# Altium integrated library Lattice Semiconductor ECP3.IntLib: 126 symbols (part 9 of 29)
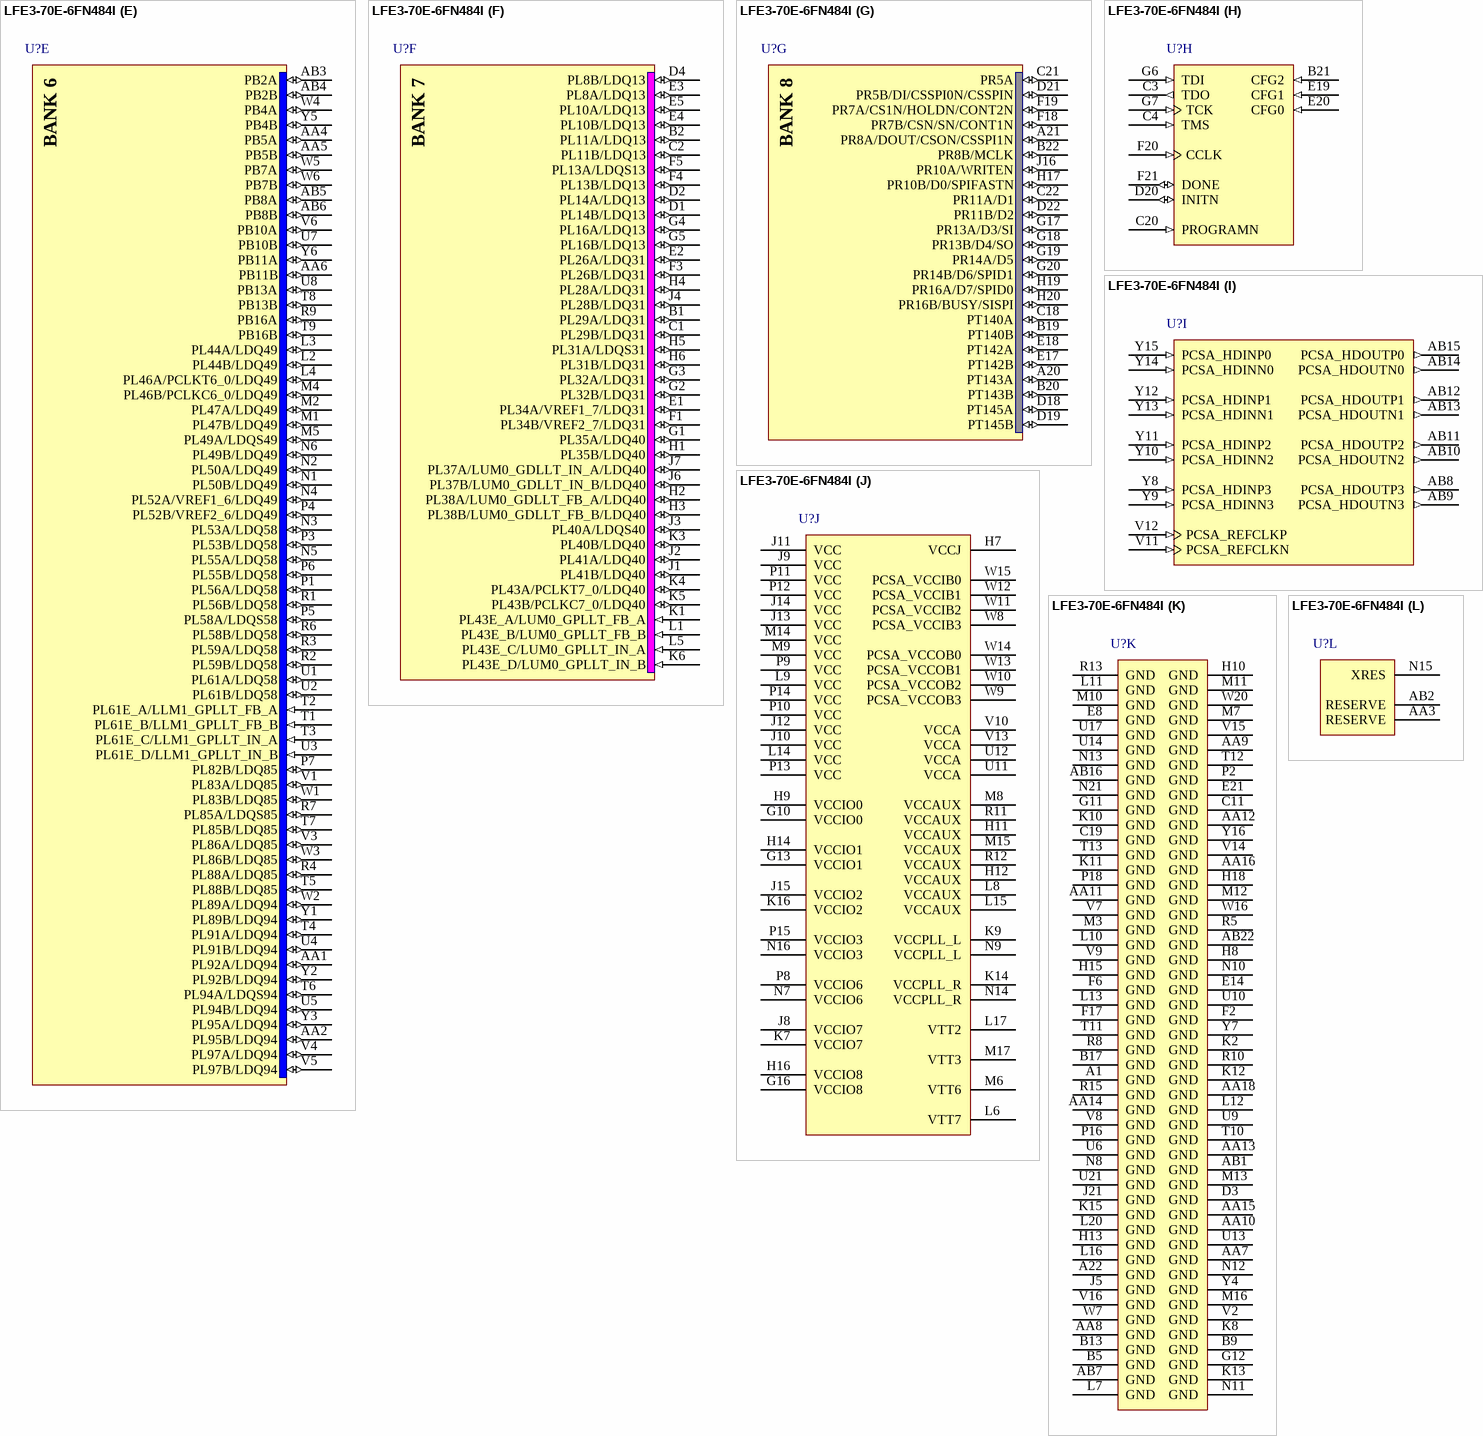
[diagram p263: symbol LFE3-70E-6FN484I]

## LFE3-70E-6FN484I
designator U?
ECP3 1.2V FPGA, 295 I/Os, 67K LUTs, 484-Pin BGA, Speed Grade 6, Industrial Grade, Pb-Free; DatasheetVersion: Ver 01.6, Mar-2010; PackageVersion: ver02.8, Jul-2011; PackageReference: fpBGA484; PackageDescription: 484-Ball Fine Pitch Ball Grid Array (fpBGA484); Code_IPC: BGA100P22X22-484; ComponentLink1Description: Manufacturer URL; ComponentLink1URL: http://www.latticesemi.com/
footprint fpBGA484 (BGA, 484-Leads, Body 23x23mm, Pitch 1mm)
part A pins: A2 PT8B/TDQ7 (io), A3 PT11A/TDQ16 (io), A4 PT11B/TDQ16 (io), A5 PT14A/TDQ16 (io), A6 PT14B/TDQ16 (io), A7 PT62B/TDQ61 (io), A8 PT65B/TDQ70 (io), A9 PT68A/TDQ70 (io), A10 PT71A/TDQ70 (io), A11 PT71B/TDQ70 (io), B3 PT8A/TDQ7 (io), B4 PT2B/TDQ7 (io), B6 PT5B/TDQ7 (io), B7 PT62A/TDQ61 (io), B8 PT65A/TDQ70 (io), B10 PT68B/TDQ70 (io), C5 PT2A/TDQ7 (io), C6 PT5A/TDQ7 (io), C7 PT56B/TDQ61 (io), C8 PT56A/TDQ61 (io), C9 PT59A/TDQ61 (io), C10 PT59B/TDQ61 (io), D5 PT4B/VREF2_0/TDQ7 (io), D6 PT10A/TDQ7 (io), D7 PT10B/TDQ7 (io), D8 PT64A/TDQ61 (io), D9 PT61A/TDQS61 (io), D10 PT61B/TDQ61 (io), D11 PT70B/TDQ70 (io), E6 PT4A/VREF1_0/TDQ7 (io), E7 PT64B/TDQ61 (io), E9 PT58B/TDQ61 (io), E10 PT67B/TDQ70 (io), E11 PT70A/TDQS70 (io), F7 PT13A/TDQ16 (io), F8 PT7A/TDQS7 (io), F9 PT58A/TDQ61 (io), F10 PT67A/TDQ70 (io), F11 PT73A/PCLKT0_0/TDQ70 (io), F12 PT73B/PCLKC0_0/TDQ70 (io), G8 PT13B/TDQ16 (io), G9 PT7B/TDQ7 (io)
part B pins: A12 PT77A/TDQ79 (io), A13 PT77B/TDQ79 (io), A14 PT83A/TDQ88 (io), A15 PT86A/TDQ88 (io), A16 PT128A/TDQ133 (io), A17 PT131A/TDQ133 (io), A18 PT134A/TDQ133 (io), A19 PT134B/TDQ133 (io), B11 PT74A/TDQ79 (io), B12 PT74B/TDQ79 (io), B14 PT83B/TDQ88 (io), B15 PT86B/TDQ88 (io), B16 PT128B/TDQ133 (io), B18 PT131B/TDQ133 (io), C12 PT76A/PCLKT1_0/TDQ79 (io), C13 PT80A/TDQ79 (io), C14 PT80B/TDQ79 (io), C15 PT89A/TDQ88 (io), C16 PT133B/TDQ133 (io), C17 PT133A/TDQS133 (io), D12 PT76B/PCLKC1_0/TDQ79 (io), D13 PT82A/TDQ79 (io), D14 PT82B/TDQ79 (io), D15 PT89B/TDQ88 (io), D16 PT136A/VREF1_1/TDQ133 (io), D17 PT136B/VREF2_1/TDQ133 (io), E12 PT79A/TDQS79 (io), E13 PT79B/TDQ79 (io), E15 PT88B/TDQ88 (io), E16 PT88A/TDQS88 (io), F13 PT85A/TDQ88 (io), F14 PT85B/TDQ88 (io), F15 PT130A/TDQ133 (io), F16 PT130B/TDQ133 (io), G14 PT91B/TDQ88 (io), G15 PT91A/TDQ88 (io)
part C pins: E22 PR26A/RDQ31 (io), F22 PR26B/RDQ31 (io), G21 PR29A/RDQ31 (io), G22 PR29B/RDQ31 (io), H21 PR32A/RDQ31 (io), H22 PR32B/RDQ31 (io), J17 PR28A/RDQ31 (io), J18 PR28B/RDQ31 (io), J19 PR31A/RDQS31 (io), J20 PR31B/RDQ31 (io), J22 PR35A/RDQ40 (io), K17 PR34A/VREF1_2/RDQ31 (io), K18 PR34B/VREF2_2/RDQ31 (io), K19 PR37B/RUM0_GDLLT_IN_B/RDQ40 (io), K20 PR37A/RUM0_GDLLT_IN_A/RDQ40 (io), K21 PR38A/RUM0_GDLLT_FB_A/RDQ40 (io), K22 PR35B/RDQ40 (io), L18 PR40A/RDQS40 (io), L19 PR40B/RDQ40 (io), L21 PR38B/RUM0_GDLLT_FB_B/RDQ40 (io), L22 PR41A/RDQ40 (io), M18 PR43E_C/RUM0_GPLLT_IN_A/RDQ40 (in), M20 PR43B/PCLKC2_0/RDQ40 (io), M21 PR43A/PCLKT2_0/RDQ40 (io), M22 PR41B/RDQ40 (io), N17 PR43E_D/RUM0_GPLLT_IN_B/RDQ40 (in), N22 PR43E_B/RUM0_GPLLT_FB_B/RDQ40 (in), P21 PR43E_A/RUM0_GPLLT_FB_A/RDQ40 (in)
part D pins: AA17 PB134B (io), AA19 PB143A (io), AA20 PR97A/RDQ94 (io), AA21 PR94A/RDQS94 (io), AA22 PR89A/RDQ94 (io), AB17 PB134A (io), AB18 PB137A (io), AB19 PB137B (io), AB20 PR97B/RDQ94 (io), AB21 PR89B/RDQ94 (io), M19 PR46B/PCLKC3_0/RDQ49 (io), N18 PR49A/RDQS49 (io), N19 PR46A/PCLKT3_0/RDQ49 (io), N20 PR52B/VREF2_3/RDQ49 (io), P17 PR55B/RDQ58 (io), P19 PR49B/RDQ49 (io), P20 PR52A/VREF1_3/RDQ49 (io), P22 PR44A/RDQ49 (io), R14 PB136B (io), R16 PR55A/RDQ58 (io), R17 PR61E_C/RLM1_GPLLT_IN_A/RDQ58 (in), R18 PR61B/RDQ58 (io), R19 PR61A/RDQ58 (io), R20 PR50B/RDQ49 (io), R21 PR44B/RDQ49 (io), R22 PR47A/RDQ49 (io), T14 PB136A (io), T15 PB145A (io), T16 PB145B (io), T17 PR61E_D/RLM1_GPLLT_IN_B/RDQ58 (in), T18 PR91B/RDQ94 (io), T19 PR91A/RDQ94 (io), T20 PR50A/RDQ49 (io), T21 PR58A/RDQS58 (io), T22 PR47B/RDQ49 (io), U15 PB133B (io), U16 PB133A (io), U18 PR92B/RDQ94 (io), U19 PR92A/RDQ94 (io), U20 PR58B/RDQ58 (io), U22 PR53A/RDQ58 (io), V17 PB142B (io), V18 PB142A (io), V19 PR95B/RDQ94 (io), V20 PR61E_B/RLM1_GPLLT_FB_B/RDQ58 (in), V21 PR61E_A/RLM1_GPLLT_FB_A/RDQ58 (in), V22 PR53B/RDQ58 (io), W17 PB139B (io), W18 PB139A (io), W19 PR95A/RDQ94 (io), W21 PR59B/RDQ58 (io), W22 PR56B/RDQ58 (io), Y17 PB140A (io), Y18 PB140B (io), Y19 PB143B (io), Y20 PR94B/RDQ94 (io), Y21 PR59A/RDQ58 (io), Y22 PR56A/RDQ58 (io)
part E pins: AA1 PL92A/LDQ94 (io), AA2 PL95B/LDQ94 (io), AA4 PB5A (io), AA5 PB5B (io), AA6 PB11B (io), AB3 PB2A (io), AB4 PB2B (io), AB5 PB8A (io), AB6 PB8B (io), L2 PL44B/LDQ49 (io), L3 PL44A/LDQ49 (io), L4 PL46A/PCLKT6_0/LDQ49 (io), M1 PL47B/LDQ49 (io), M2 PL47A/LDQ49 (io), M4 PL46B/PCLKC6_0/LDQ49 (io), M5 PL49A/LDQS49 (io), N1 PL50B/LDQ49 (io), N2 PL50A/LDQ49 (io), N3 PL53A/LDQ58 (io), N4 PL52A/VREF1_6/LDQ49 (io), N5 PL55A/LDQ58 (io), N6 PL49B/LDQ49 (io), P1 PL56A/LDQ58 (io), P3 PL53B/LDQ58 (io), P4 PL52B/VREF2_6/LDQ49 (io), P5 PL58A/LDQS58 (io), P6 PL55B/LDQ58 (io), P7 PL82B/LDQ85 (io), R1 PL56B/LDQ58 (io), R2 PL59B/LDQ58 (io), R3 PL59A/LDQ58 (io), R4 PL88A/LDQ85 (io), R6 PL58B/LDQ58 (io), R7 PL85A/LDQS85 (io), R9 PB16A (io), T1 PL61E_B/LLM1_GPLLT_FB_B (in), T2 PL61E_A/LLM1_GPLLT_FB_A (in), T3 PL61E_C/LLM1_GPLLT_IN_A (in), T4 PL91A/LDQ94 (io), T5 PL88B/LDQ85 (io), T6 PL94A/LDQS94 (io), T7 PL85B/LDQ85 (io), T8 PB13B (io), T9 PB16B (io), U1 PL61A/LDQ58 (io), U2 PL61B/LDQ58 (io), U3 PL61E_D/LLM1_GPLLT_IN_B (in), U4 PL91B/LDQ94 (io), U5 PL94B/LDQ94 (io), U7 PB10B (io), U8 PB13A (io), V1 PL83A/LDQ85 (io), V3 PL86A/LDQ85 (io), V4 PL97A/LDQ94 (io), V5 PL97B/LDQ94 (io), V6 PB10A (io), W1 PL83B/LDQ85 (io), W2 PL89A/LDQ94 (io), W3 PL86B/LDQ85 (io), W4 PB4A (io), W5 PB7A (io), W6 PB7B (io), Y1 PL89B/LDQ94 (io), Y2 PL92B/LDQ94 (io), Y3 PL95A/LDQ94 (io), Y5 PB4B (io), Y6 PB11A (io)
part F pins: B1 PL29A/LDQ31 (io), B2 PL11A/LDQ13 (io), C1 PL29B/LDQ31 (io), C2 PL11B/LDQ13 (io), D1 PL14B/LDQ13 (io), D2 PL14A/LDQ13 (io), D4 PL8B/LDQ13 (io), E1 PL34A/VREF1_7/LDQ31 (io), E2 PL26A/LDQ31 (io), E3 PL8A/LDQ13 (io), E4 PL10B/LDQ13 (io), E5 PL10A/LDQ13 (io), F1 PL34B/VREF2_7/LDQ31 (io), F3 PL26B/LDQ31 (io), F4 PL13B/LDQ13 (io), F5 PL13A/LDQS13 (io), G1 PL35A/LDQ40 (io), G2 PL32B/LDQ31 (io), G3 PL32A/LDQ31 (io), G4 PL16A/LDQ13 (io), G5 PL16B/LDQ13 (io), H1 PL35B/LDQ40 (io), H2 PL38A/LUM0_GDLLT_FB_A/LDQ40 (io), H3 PL38B/LUM0_GDLLT_FB_B/LDQ40 (io), H4 PL28A/LDQ31 (io), H5 PL31A/LDQS31 (io), H6 PL31B/LDQ31 (io), J1 PL41B/LDQ40 (io), J2 PL41A/LDQ40 (io), J3 PL40A/LDQS40 (io), J4 PL28B/LDQ31 (io), J6 PL37B/LUM0_GDLLT_IN_B/LDQ40 (io), J7 PL37A/LUM0_GDLLT_IN_A/LDQ40 (io), K1 PL43E_A/LUM0_GPLLT_FB_A (in), K3 PL40B/LDQ40 (io), K4 PL43A/PCLKT7_0/LDQ40 (io), K5 PL43B/PCLKC7_0/LDQ40 (io), K6 PL43E_D/LUM0_GPLLT_IN_B (in), L1 PL43E_B/LUM0_GPLLT_FB_B (in), L5 PL43E_C/LUM0_GPLLT_IN_A (in)
part G pins: A20 PT143A (io), A21 PR8A/DOUT/CSON/CSSPI1N (io), B19 PT140B (io), B20 PT143B (io), B22 PR8B/MCLK (io), C18 PT140A (io), C21 PR5A (io), C22 PR11A/D1 (io), D18 PT145A (io), D19 PT145B (io), D21 PR5B/DI/CSSPI0N/CSSPIN (io), D22 PR11B/D2 (io), E17 PT142B (io), E18 PT142A (io), F18 PR7B/CSN/SN/CONT1N (io), F19 PR7A/CS1N/HOLDN/CONT2N (io), G17 PR13A/D3/SI (io), G18 PR13B/D4/SO (io), G19 PR14A/D5 (io), G20 PR14B/D6/SPID1 (io), H17 PR10B/D0/SPIFASTN (io), H19 PR16A/D7/SPID0 (io), H20 PR16B/BUSY/SISPI (io), J16 PR10A/WRITEN (io)
part H pins: B21 CFG2 (in), C3 TDO (out), C4 TMS (in), C20 PROGRAMN (in), D20 INITN (io), E19 CFG1 (in), E20 CFG0 (in), F20 CCLK (in), F21 DONE (io), G6 TDI (in), G7 TCK (in)
part I pins: AB8 PCSA_HDOUTP3 (out), AB9 PCSA_HDOUTN3 (out), AB10 PCSA_HDOUTN2 (out), AB11 PCSA_HDOUTP2 (out), AB12 PCSA_HDOUTP1 (out), AB13 PCSA_HDOUTN1 (out), AB14 PCSA_HDOUTN0 (out), AB15 PCSA_HDOUTP0 (out), V11 PCSA_REFCLKN (in), V12 PCSA_REFCLKP (in), Y8 PCSA_HDINP3 (in), Y9 PCSA_HDINN3 (in), Y10 PCSA_HDINN2 (in), Y11 PCSA_HDINP2 (in), Y12 PCSA_HDINP1 (in), Y13 PCSA_HDINN1 (in), Y14 PCSA_HDINN0 (in), Y15 PCSA_HDINP0 (in)
part J pins: G10 VCCIO0 (power), G13 VCCIO1 (power), G16 VCCIO8 (power), H7 VCCJ (power), H9 VCCIO0 (power), H11 VCCAUX (power), H12 VCCAUX (power), H14 VCCIO1 (power), H16 VCCIO8 (power), J8 VCCIO7 (power), J9 VCC (power), J10 VCC (power), J11 VCC (power), J12 VCC (power), J13 VCC (power), J14 VCC (power), J15 VCCIO2 (power), K7 VCCIO7 (power), K9 VCCPLL_L (power), K14 VCCPLL_R (power), K16 VCCIO2 (power), L6 VTT7 (power), L8 VCCAUX (power), L9 VCC (power), L14 VCC (power), L15 VCCAUX (power), L17 VTT2 (power), M6 VTT6 (power), M8 VCCAUX (power), M9 VCC (power), M14 VCC (power), M15 VCCAUX (power), M17 VTT3 (power), N7 VCCIO6 (power), N9 VCCPLL_L (power), N14 VCCPLL_R (power), N16 VCCIO3 (power), P8 VCCIO6 (power), P9 VCC (power), P10 VCC (power), P11 VCC (power), P12 VCC (power), P13 VCC (power), P14 VCC (power), P15 VCCIO3 (power), R11 VCCAUX (power), R12 VCCAUX (power), U11 VCCA (power), U12 VCCA (power), V10 VCCA (power), V13 VCCA (power), W8 PCSA_VCCIB3 (power), W9 PCSA_VCCOB3 (power), W10 PCSA_VCCOB2 (power), W11 PCSA_VCCIB2 (power), W12 PCSA_VCCIB1 (power), W13 PCSA_VCCOB1 (power), W14 PCSA_VCCOB0 (power), W15 PCSA_VCCIB0 (power)
part K pins: A1 GND (power), A22 GND (power), AA7 GND (power), AA8 GND (power), AA9 GND (power), AA10 GND (power), AA11 GND (power), AA12 GND (power), AA13 GND (power), AA14 GND (power), AA15 GND (power), AA16 GND (power), AA18 GND (power), AB1 GND (power), AB7 GND (power), AB16 GND (power), AB22 GND (power), B5 GND (power), B9 GND (power), B13 GND (power), B17 GND (power), C11 GND (power), C19 GND (power), D3 GND (power), E8 GND (power), E14 GND (power), E21 GND (power), F2 GND (power), F6 GND (power), F17 GND (power), G11 GND (power), G12 GND (power), H8 GND (power), H10 GND (power), H13 GND (power), H15 GND (power), H18 GND (power), J5 GND (power), J21 GND (power), K2 GND (power), K8 GND (power), K10 GND (power), K11 GND (power), K12 GND (power), K13 GND (power), K15 GND (power), L7 GND (power), L10 GND (power), L11 GND (power), L12 GND (power), L13 GND (power), L16 GND (power), L20 GND (power), M3 GND (power), M7 GND (power), M10 GND (power), M11 GND (power), M12 GND (power), M13 GND (power), M16 GND (power), N8 GND (power), N10 GND (power), N11 GND (power), N12 GND (power), N13 GND (power), N21 GND (power), P2 GND (power), P16 GND (power), P18 GND (power), R5 GND (power), R8 GND (power), R10 GND (power), R13 GND (power), R15 GND (power), T10 GND (power), T11 GND (power), T12 GND (power), T13 GND (power), U6 GND (power), U9 GND (power), U10 GND (power), U13 GND (power), U14 GND (power), U17 GND (power), U21 GND (power), V2 GND (power), V7 GND (power), V8 GND (power), V9 GND (power), V14 GND (power), V15 GND (power), V16 GND (power), W7 GND (power), W16 GND (power), W20 GND (power), Y4 GND (power), Y7 GND (power), Y16 GND (power)
part L pins: AA3 RESERVE, AB2 RESERVE, N15 XRES
part A text: BANK 0
part B text: BANK 1
part C text: BANK 2
part D text: BANK 3
part E text: BANK 6
part F text: BANK 7
part G text: BANK 8

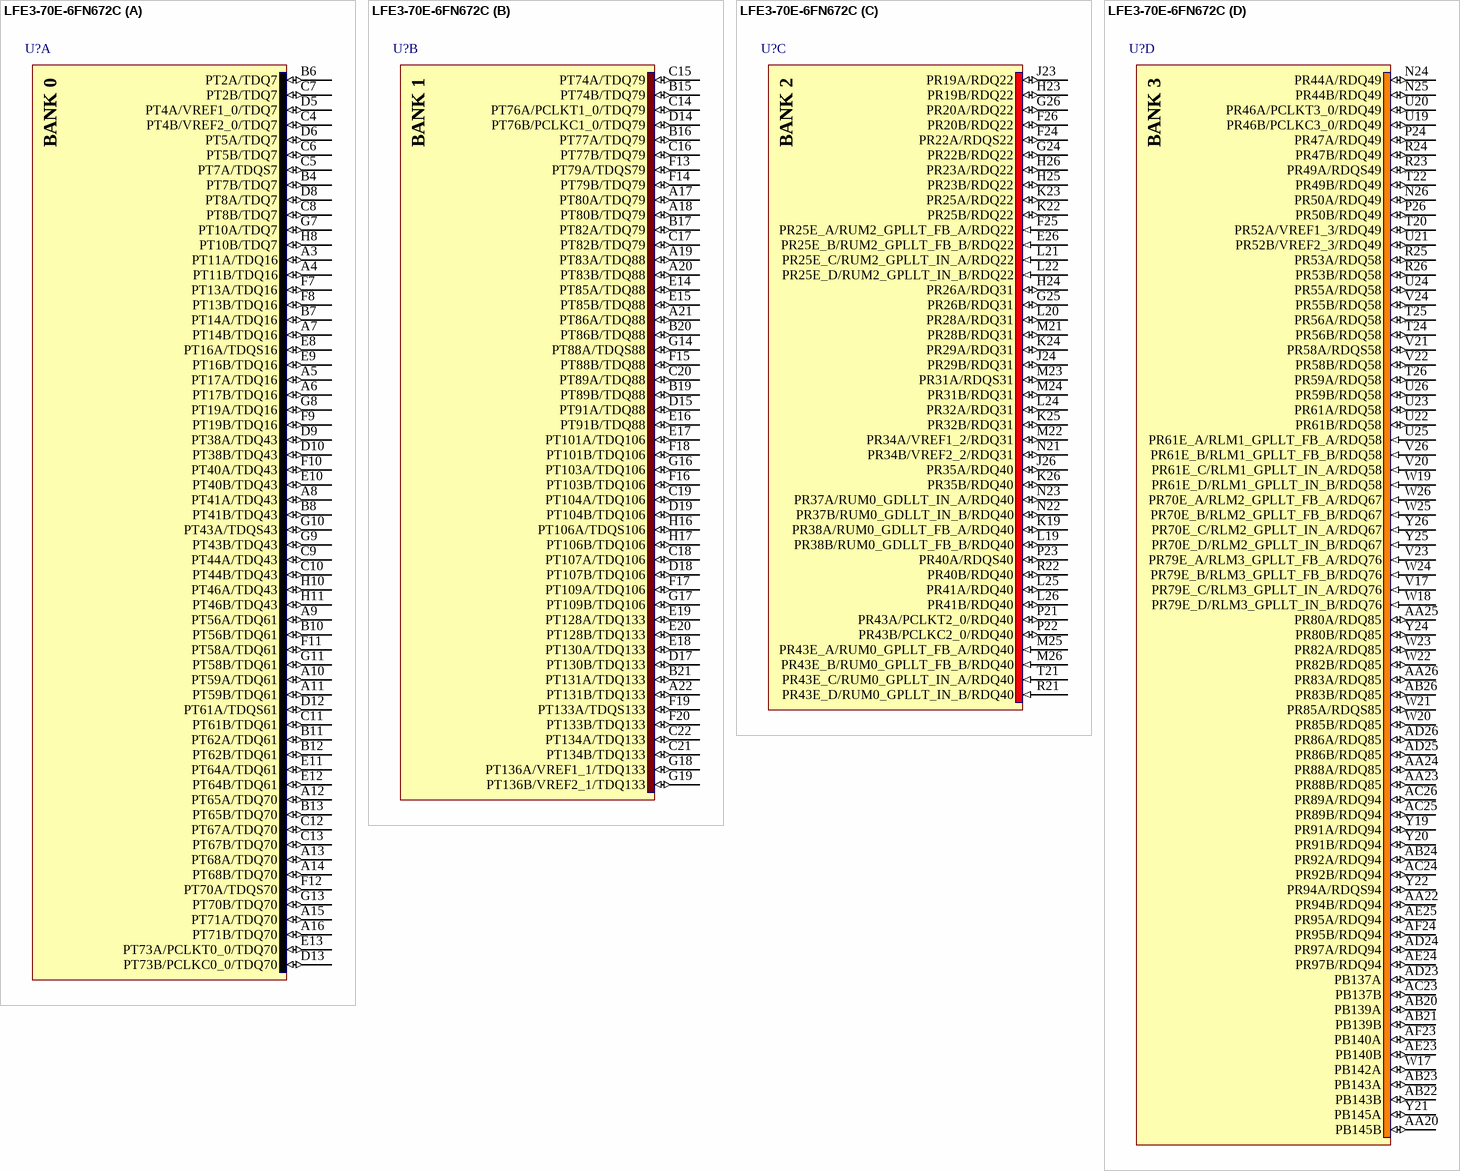
[diagram p45: symbol LFE3-70E-6FN672C]

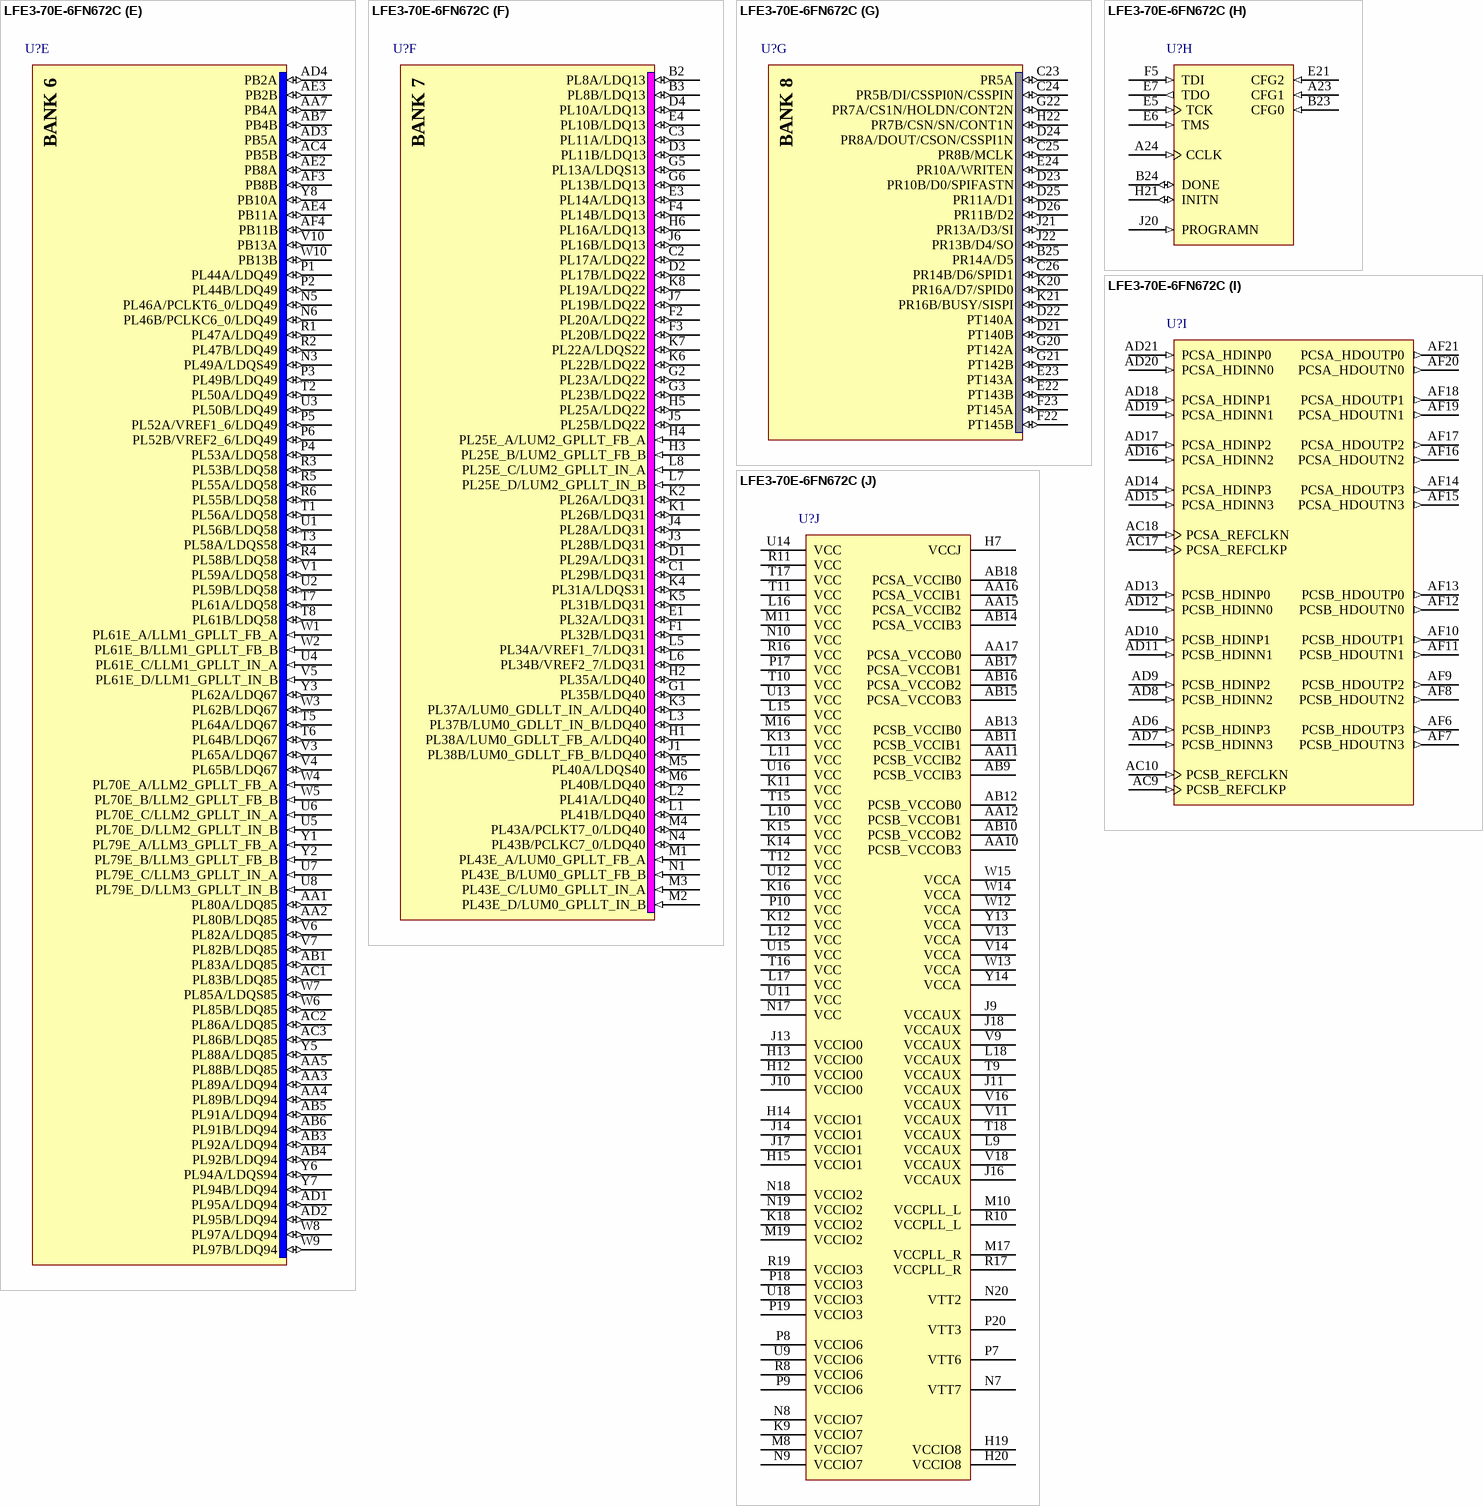
[diagram p46: symbol LFE3-70E-6FN672C]

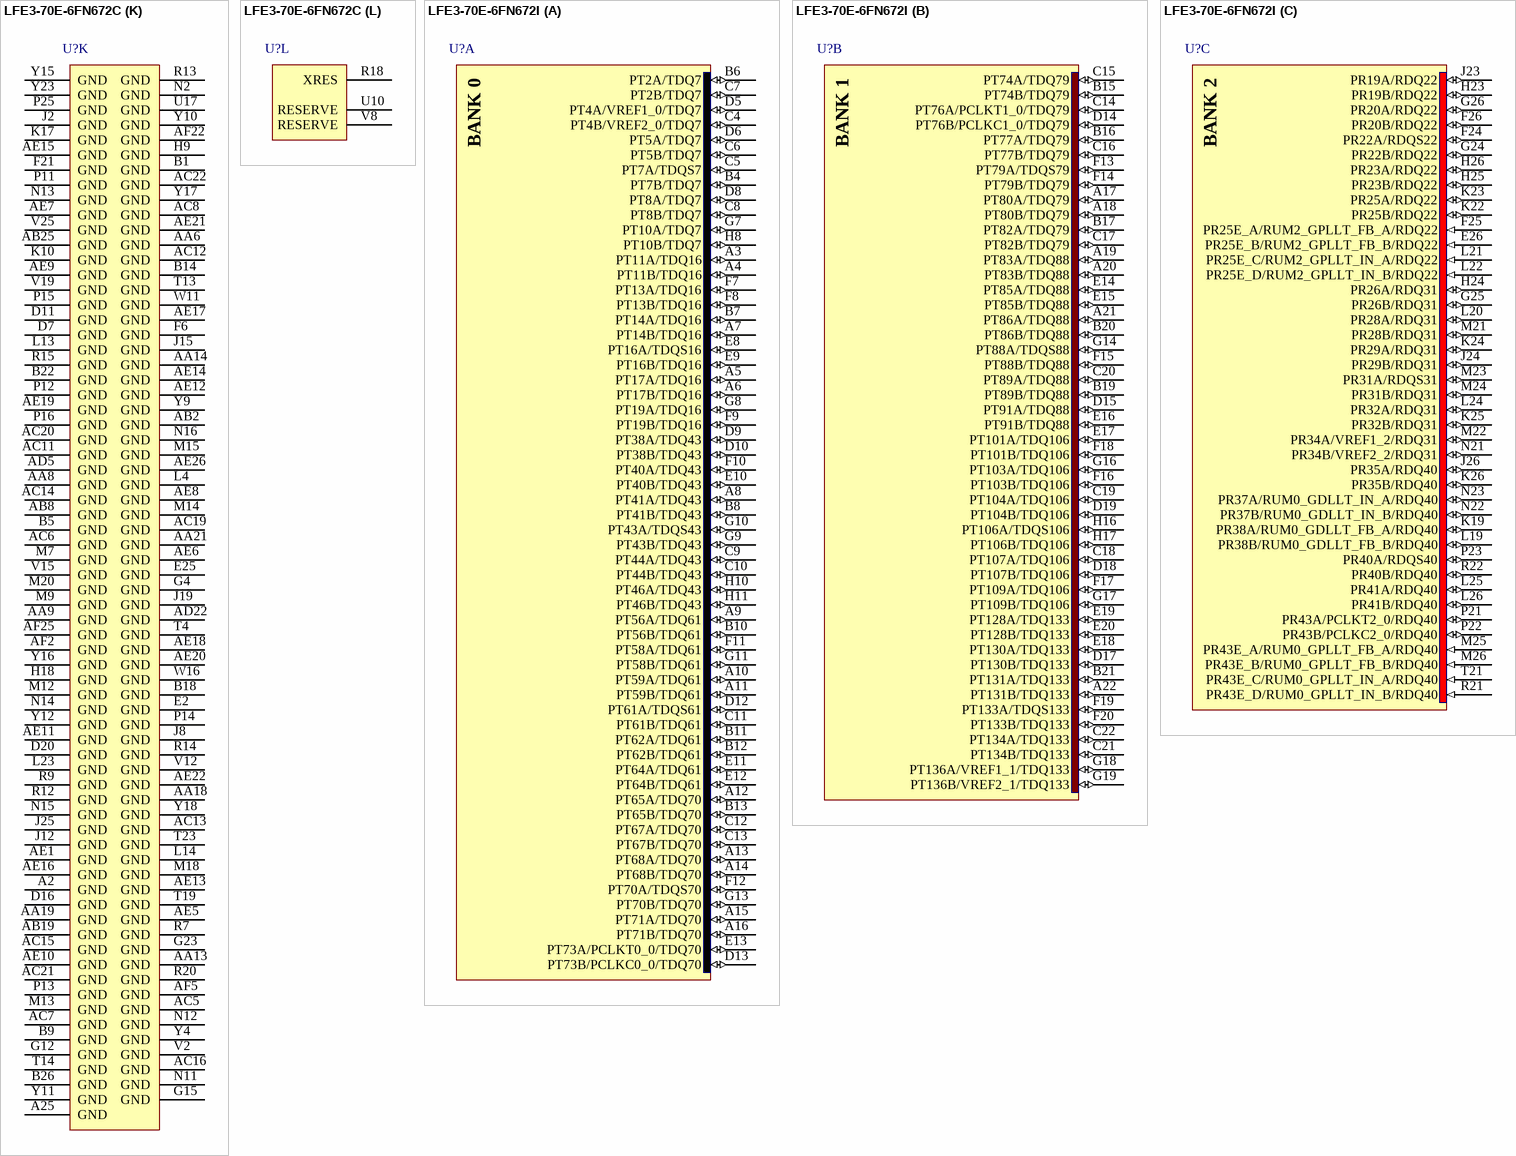
[diagram p47: symbols LFE3-70E-6FN672C to LFE3-70E-6FN672I]

## LFE3-70E-6FN672C
designator U?
ECP3 1.2V FPGA, 380 I/Os, 67K LUTs, 672-Pin BGA, Speed Grade 6, Commercial Grade, Pb-Free; DatasheetVersion: Ver 01.6, Mar-2010; PackageVersion: ver02.8, Jul-2011; PackageReference: fpBGA672; PackageDescription: 672-Ball Fine Pitch Ball Grid Array (fpBGA672); ComponentLink1Description: Manufacturer URL; ComponentLink1URL: http://www.latticesemi.com/
footprint fpBGA672 (BGA, 672-Leads, Body 27x27mm, Pitch 1mm)
part A pins: A3 PT11A/TDQ16 (io), A4 PT11B/TDQ16 (io), A5 PT17A/TDQ16 (io), A6 PT17B/TDQ16 (io), A7 PT14B/TDQ16 (io), A8 PT41A/TDQ43 (io), A9 PT56A/TDQ61 (io), A10 PT59A/TDQ61 (io), A11 PT59B/TDQ61 (io), A12 PT65A/TDQ70 (io), A13 PT68A/TDQ70 (io), A14 PT68B/TDQ70 (io), A15 PT71A/TDQ70 (io), A16 PT71B/TDQ70 (io), B4 PT7B/TDQ7 (io), B6 PT2A/TDQ7 (io), B7 PT14A/TDQ16 (io), B8 PT41B/TDQ43 (io), B10 PT56B/TDQ61 (io), B11 PT62A/TDQ61 (io), B12 PT62B/TDQ61 (io), B13 PT65B/TDQ70 (io), C4 PT4B/VREF2_0/TDQ7 (io), C5 PT7A/TDQS7 (io), C6 PT5B/TDQ7 (io), C7 PT2B/TDQ7 (io), C8 PT8B/TDQ7 (io), C9 PT44A/TDQ43 (io), C10 PT44B/TDQ43 (io), C11 PT61B/TDQ61 (io), C12 PT67A/TDQ70 (io), C13 PT67B/TDQ70 (io), D5 PT4A/VREF1_0/TDQ7 (io), D6 PT5A/TDQ7 (io), D8 PT8A/TDQ7 (io), D9 PT38A/TDQ43 (io), D10 PT38B/TDQ43 (io), D12 PT61A/TDQS61 (io), D13 PT73B/PCLKC0_0/TDQ70 (io), E8 PT16A/TDQS16 (io), E9 PT16B/TDQ16 (io), E10 PT40B/TDQ43 (io), E11 PT64A/TDQ61 (io), E12 PT64B/TDQ61 (io), E13 PT73A/PCLKT0_0/TDQ70 (io), F7 PT13A/TDQ16 (io), F8 PT13B/TDQ16 (io), F9 PT19B/TDQ16 (io), F10 PT40A/TDQ43 (io), F11 PT58A/TDQ61 (io), F12 PT70A/TDQS70 (io), G7 PT10A/TDQ7 (io), G8 PT19A/TDQ16 (io), G9 PT43B/TDQ43 (io), G10 PT43A/TDQS43 (io), G11 PT58B/TDQ61 (io), G13 PT70B/TDQ70 (io), H8 PT10B/TDQ7 (io), H10 PT46A/TDQ43 (io), H11 PT46B/TDQ43 (io)
part B pins: A17 PT80A/TDQ79 (io), A18 PT80B/TDQ79 (io), A19 PT83A/TDQ88 (io), A20 PT83B/TDQ88 (io), A21 PT86A/TDQ88 (io), A22 PT131B/TDQ133 (io), B15 PT74B/TDQ79 (io), B16 PT77A/TDQ79 (io), B17 PT82A/TDQ79 (io), B19 PT89B/TDQ88 (io), B20 PT86B/TDQ88 (io), B21 PT131A/TDQ133 (io), C14 PT76A/PCLKT1_0/TDQ79 (io), C15 PT74A/TDQ79 (io), C16 PT77B/TDQ79 (io), C17 PT82B/TDQ79 (io), C18 PT107A/TDQ106 (io), C19 PT104A/TDQ106 (io), C20 PT89A/TDQ88 (io), C21 PT134B/TDQ133 (io), C22 PT134A/TDQ133 (io), D14 PT76B/PCLKC1_0/TDQ79 (io), D15 PT91A/TDQ88 (io), D17 PT130B/TDQ133 (io), D18 PT107B/TDQ106 (io), D19 PT104B/TDQ106 (io), E14 PT85A/TDQ88 (io), E15 PT85B/TDQ88 (io), E16 PT91B/TDQ88 (io), E17 PT101A/TDQ106 (io), E18 PT130A/TDQ133 (io), E19 PT128A/TDQ133 (io), E20 PT128B/TDQ133 (io), F13 PT79A/TDQS79 (io), F14 PT79B/TDQ79 (io), F15 PT88B/TDQ88 (io), F16 PT103B/TDQ106 (io), F17 PT109A/TDQ106 (io), F18 PT101B/TDQ106 (io), F19 PT133A/TDQS133 (io), F20 PT133B/TDQ133 (io), G14 PT88A/TDQS88 (io), G16 PT103A/TDQ106 (io), G17 PT109B/TDQ106 (io), G18 PT136A/VREF1_1/TDQ133 (io), G19 PT136B/VREF2_1/TDQ133 (io), H16 PT106A/TDQS106 (io), H17 PT106B/TDQ106 (io)
part C pins: E26 PR25E_B/RUM2_GPLLT_FB_B/RDQ22 (in), F24 PR22A/RDQS22 (io), F25 PR25E_A/RUM2_GPLLT_FB_A/RDQ22 (in), F26 PR20B/RDQ22 (io), G24 PR22B/RDQ22 (io), G25 PR26B/RDQ31 (io), G26 PR20A/RDQ22 (io), H23 PR19B/RDQ22 (io), H24 PR26A/RDQ31 (io), H25 PR23B/RDQ22 (io), H26 PR23A/RDQ22 (io), J23 PR19A/RDQ22 (io), J24 PR29B/RDQ31 (io), J26 PR35A/RDQ40 (io), K19 PR38A/RUM0_GDLLT_FB_A/RDQ40 (io), K22 PR25B/RDQ22 (io), K23 PR25A/RDQ22 (io), K24 PR29A/RDQ31 (io), K25 PR32B/RDQ31 (io), K26 PR35B/RDQ40 (io), L19 PR38B/RUM0_GDLLT_FB_B/RDQ40 (io), L20 PR28A/RDQ31 (io), L21 PR25E_C/RUM2_GPLLT_IN_A/RDQ22 (in), L22 PR25E_D/RUM2_GPLLT_IN_B/RDQ22 (in), L24 PR32A/RDQ31 (io), L25 PR41A/RDQ40 (io), L26 PR41B/RDQ40 (io), M21 PR28B/RDQ31 (io), M22 PR34A/VREF1_2/RDQ31 (io), M23 PR31A/RDQS31 (io), M24 PR31B/RDQ31 (io), M25 PR43E_A/RUM0_GPLLT_FB_A/RDQ40 (in), M26 PR43E_B/RUM0_GPLLT_FB_B/RDQ40 (in), N21 PR34B/VREF2_2/RDQ31 (io), N22 PR37B/RUM0_GDLLT_IN_B/RDQ40 (io), N23 PR37A/RUM0_GDLLT_IN_A/RDQ40 (io), P21 PR43A/PCLKT2_0/RDQ40 (io), P22 PR43B/PCLKC2_0/RDQ40 (io), P23 PR40A/RDQS40 (io), R21 PR43E_D/RUM0_GPLLT_IN_B/RDQ40 (in), R22 PR40B/RDQ40 (io), T21 PR43E_C/RUM0_GPLLT_IN_A/RDQ40 (in)
part D pins: AA20 PB145B (io), AA22 PR94B/RDQ94 (io), AA23 PR88B/RDQ85 (io), AA24 PR88A/RDQ85 (io), AA25 PR80A/RDQ85 (io), AA26 PR83A/RDQ85 (io), AB20 PB139A (io), AB21 PB139B (io), AB22 PB143B (io), AB23 PB143A (io), AB24 PR92A/RDQ94 (io), AB26 PR83B/RDQ85 (io), AC23 PB137B (io), AC24 PR92B/RDQ94 (io), AC25 PR89B/RDQ94 (io), AC26 PR89A/RDQ94 (io), AD23 PB137A (io), AD24 PR97A/RDQ94 (io), AD25 PR86B/RDQ85 (io), AD26 PR86A/RDQ85 (io), AE23 PB140B (io), AE24 PR97B/RDQ94 (io), AE25 PR95A/RDQ94 (io), AF23 PB140A (io), AF24 PR95B/RDQ94 (io), N24 PR44A/RDQ49 (io), N25 PR44B/RDQ49 (io), N26 PR50A/RDQ49 (io), P24 PR47A/RDQ49 (io), P26 PR50B/RDQ49 (io), R23 PR49A/RDQS49 (io), R24 PR47B/RDQ49 (io), R25 PR53A/RDQ58 (io), R26 PR53B/RDQ58 (io), T20 PR52A/VREF1_3/RDQ49 (io), T22 PR49B/RDQ49 (io), T24 PR56B/RDQ58 (io), T25 PR56A/RDQ58 (io), T26 PR59A/RDQ58 (io), U19 PR46B/PCLKC3_0/RDQ49 (io), U20 PR46A/PCLKT3_0/RDQ49 (io), U21 PR52B/VREF2_3/RDQ49 (io), U22 PR61B/RDQ58 (io), U23 PR61A/RDQ58 (io), U24 PR55A/RDQ58 (io), U25 PR61E_A/RLM1_GPLLT_FB_A/RDQ58 (in), U26 PR59B/RDQ58 (io), V17 PR79E_C/RLM3_GPLLT_IN_A/RDQ76 (in), V20 PR61E_C/RLM1_GPLLT_IN_A/RDQ58 (in), V21 PR58A/RDQS58 (io), V22 PR58B/RDQ58 (io), V23 PR79E_A/RLM3_GPLLT_FB_A/RDQ76 (in), V24 PR55B/RDQ58 (io), V26 PR61E_B/RLM1_GPLLT_FB_B/RDQ58 (in), W17 PB142A (io), W18 PR79E_D/RLM3_GPLLT_IN_B/RDQ76 (in), W19 PR61E_D/RLM1_GPLLT_IN_B/RDQ58 (in), W20 PR85B/RDQ85 (io), W21 PR85A/RDQS85 (io), W22 PR82B/RDQ85 (io), W23 PR82A/RDQ85 (io), W24 PR79E_B/RLM3_GPLLT_FB_B/RDQ76 (in), W25 PR70E_B/RLM2_GPLLT_FB_B/RDQ67 (in), W26 PR70E_A/RLM2_GPLLT_FB_A/RDQ67 (in), Y19 PR91A/RDQ94 (io), Y20 PR91B/RDQ94 (io), Y21 PB145A (io), Y22 PR94A/RDQS94 (io), Y24 PR80B/RDQ85 (io), Y25 PR70E_D/RLM2_GPLLT_IN_B/RDQ67 (in), Y26 PR70E_C/RLM2_GPLLT_IN_A/RDQ67 (in)
part E pins: AA1 PL80A/LDQ85 (io), AA2 PL80B/LDQ85 (io), AA3 PL89A/LDQ94 (io), AA4 PL89B/LDQ94 (io), AA5 PL88B/LDQ85 (io), AA7 PB4A (io), AB1 PL83A/LDQ85 (io), AB3 PL92A/LDQ94 (io), AB4 PL92B/LDQ94 (io), AB5 PL91A/LDQ94 (io), AB6 PL91B/LDQ94 (io), AB7 PB4B (io), AC1 PL83B/LDQ85 (io), AC2 PL86A/LDQ85 (io), AC3 PL86B/LDQ85 (io), AC4 PB5B (io), AD1 PL95A/LDQ94 (io), AD2 PL95B/LDQ94 (io), AD3 PB5A (io), AD4 PB2A (io), AE2 PB8A (io), AE3 PB2B (io), AE4 PB11A (io), AF3 PB8B (io), AF4 PB11B (io), N3 PL49A/LDQS49 (io), N5 PL46A/PCLKT6_0/LDQ49 (io), N6 PL46B/PCLKC6_0/LDQ49 (io), P1 PL44A/LDQ49 (io), P2 PL44B/LDQ49 (io), P3 PL49B/LDQ49 (io), P4 PL53A/LDQ58 (io), P5 PL52A/VREF1_6/LDQ49 (io), P6 PL52B/VREF2_6/LDQ49 (io), R1 PL47A/LDQ49 (io), R2 PL47B/LDQ49 (io), R3 PL53B/LDQ58 (io), R4 PL58B/LDQ58 (io), R5 PL55A/LDQ58 (io), R6 PL55B/LDQ58 (io), T1 PL56A/LDQ58 (io), T2 PL50A/LDQ49 (io), T3 PL58A/LDQS58 (io), T5 PL64A/LDQ67 (io), T6 PL64B/LDQ67 (io), T7 PL61A/LDQ58 (io), T8 PL61B/LDQ58 (io), U1 PL56B/LDQ58 (io), U2 PL59B/LDQ58 (io), U3 PL50B/LDQ49 (io), U4 PL61E_C/LLM1_GPLLT_IN_A (in), U5 PL70E_D/LLM2_GPLLT_IN_B (in), U6 PL70E_C/LLM2_GPLLT_IN_A (in), U7 PL79E_C/LLM3_GPLLT_IN_A (in), U8 PL79E_D/LLM3_GPLLT_IN_B (in), V1 PL59A/LDQ58 (io), V3 PL65A/LDQ67 (io), V4 PL65B/LDQ67 (io), V5 PL61E_D/LLM1_GPLLT_IN_B (in), V6 PL82A/LDQ85 (io), V7 PL82B/LDQ85 (io), V10 PB13A (io), W1 PL61E_A/LLM1_GPLLT_FB_A (in), W2 PL61E_B/LLM1_GPLLT_FB_B (in), W3 PL62B/LDQ67 (io), W4 PL70E_A/LLM2_GPLLT_FB_A (in), W5 PL70E_B/LLM2_GPLLT_FB_B (in), W6 PL85B/LDQ85 (io), W7 PL85A/LDQS85 (io), W8 PL97A/LDQ94 (io), W9 PL97B/LDQ94 (io), W10 PB13B (io), Y1 PL79E_A/LLM3_GPLLT_FB_A (in), Y2 PL79E_B/LLM3_GPLLT_FB_B (in), Y3 PL62A/LDQ67 (io), Y5 PL88A/LDQ85 (io), Y6 PL94A/LDQS94 (io), Y7 PL94B/LDQ94 (io), Y8 PB10A (io)
part F pins: B2 PL8A/LDQ13 (io), B3 PL8B/LDQ13 (io), C1 PL29B/LDQ31 (io), C2 PL17A/LDQ22 (io), C3 PL11A/LDQ13 (io), D1 PL29A/LDQ31 (io), D2 PL17B/LDQ22 (io), D3 PL11B/LDQ13 (io), D4 PL10A/LDQ13 (io), E1 PL32A/LDQ31 (io), E3 PL14A/LDQ13 (io), E4 PL10B/LDQ13 (io), F1 PL32B/LDQ31 (io), F2 PL20A/LDQ22 (io), F3 PL20B/LDQ22 (io), F4 PL14B/LDQ13 (io), G1 PL35B/LDQ40 (io), G2 PL23A/LDQ22 (io), G3 PL23B/LDQ22 (io), G5 PL13A/LDQS13 (io), G6 PL13B/LDQ13 (io), H1 PL38A/LUM0_GDLLT_FB_A/LDQ40 (io), H2 PL35A/LDQ40 (io), H3 PL25E_B/LUM2_GPLLT_FB_B (in), H4 PL25E_A/LUM2_GPLLT_FB_A (in), H5 PL25A/LDQ22 (io), H6 PL16A/LDQ13 (io), J1 PL38B/LUM0_GDLLT_FB_B/LDQ40 (io), J3 PL28B/LDQ31 (io), J4 PL28A/LDQ31 (io), J5 PL25B/LDQ22 (io), J6 PL16B/LDQ13 (io), J7 PL19B/LDQ22 (io), K1 PL26B/LDQ31 (io), K2 PL26A/LDQ31 (io), K3 PL37A/LUM0_GDLLT_IN_A/LDQ40 (io), K4 PL31A/LDQS31 (io), K5 PL31B/LDQ31 (io), K6 PL22B/LDQ22 (io), K7 PL22A/LDQS22 (io), K8 PL19A/LDQ22 (io), L1 PL41B/LDQ40 (io), L2 PL41A/LDQ40 (io), L3 PL37B/LUM0_GDLLT_IN_B/LDQ40 (io), L5 PL34A/VREF1_7/LDQ31 (io), L6 PL34B/VREF2_7/LDQ31 (io), L7 PL25E_D/LUM2_GPLLT_IN_B (in), L8 PL25E_C/LUM2_GPLLT_IN_A (in), M1 PL43E_A/LUM0_GPLLT_FB_A (in), M2 PL43E_D/LUM0_GPLLT_IN_B (in), M3 PL43E_C/LUM0_GPLLT_IN_A (in), M4 PL43A/PCLKT7_0/LDQ40 (io), M5 PL40A/LDQS40 (io), M6 PL40B/LDQ40 (io), N1 PL43E_B/LUM0_GPLLT_FB_B (in), N4 PL43B/PCLKC7_0/LDQ40 (io)
part G pins: B25 PR14A/D5 (io), C23 PR5A (io), C24 PR5B/DI/CSSPI0N/CSSPIN (io), C25 PR8B/MCLK (io), C26 PR14B/D6/SPID1 (io), D21 PT140B (io), D22 PT140A (io), D23 PR10B/D0/SPIFASTN (io), D24 PR8A/DOUT/CSON/CSSPI1N (io), D25 PR11A/D1 (io), D26 PR11B/D2 (io), E22 PT143B (io), E23 PT143A (io), E24 PR10A/WRITEN (io), F22 PT145B (io), F23 PT145A (io), G20 PT142A (io), G21 PT142B (io), G22 PR7A/CS1N/HOLDN/CONT2N (io), H22 PR7B/CSN/SN/CONT1N (io), J21 PR13A/D3/SI (io), J22 PR13B/D4/SO (io), K20 PR16A/D7/SPID0 (io), K21 PR16B/BUSY/SISPI (io)
part H pins: A23 CFG1 (in), A24 CCLK (in), B23 CFG0 (in), B24 DONE (io), E5 TCK (in), E6 TMS (in), E7 TDO (out), E21 CFG2 (in), F5 TDI (in), H21 INITN (io), J20 PROGRAMN (in)
part I pins: AC9 PCSB_REFCLKP (in), AC10 PCSB_REFCLKN (in), AC17 PCSA_REFCLKP (in), AC18 PCSA_REFCLKN (in), AD6 PCSB_HDINP3 (in), AD7 PCSB_HDINN3 (in), AD8 PCSB_HDINN2 (in), AD9 PCSB_HDINP2 (in), AD10 PCSB_HDINP1 (in), AD11 PCSB_HDINN1 (in), AD12 PCSB_HDINN0 (in), AD13 PCSB_HDINP0 (in), AD14 PCSA_HDINP3 (in), AD15 PCSA_HDINN3 (in), AD16 PCSA_HDINN2 (in), AD17 PCSA_HDINP2 (in), AD18 PCSA_HDINP1 (in), AD19 PCSA_HDINN1 (in), AD20 PCSA_HDINN0 (in), AD21 PCSA_HDINP0 (in), AF6 PCSB_HDOUTP3 (out), AF7 PCSB_HDOUTN3 (out), AF8 PCSB_HDOUTN2 (out), AF9 PCSB_HDOUTP2 (out), AF10 PCSB_HDOUTP1 (out), AF11 PCSB_HDOUTN1 (out), AF12 PCSB_HDOUTN0 (out), AF13 PCSB_HDOUTP0 (out), AF14 PCSA_HDOUTP3 (out), AF15 PCSA_HDOUTN3 (out), AF16 PCSA_HDOUTN2 (out), AF17 PCSA_HDOUTP2 (out), AF18 PCSA_HDOUTP1 (out), AF19 PCSA_HDOUTN1 (out), AF20 PCSA_HDOUTN0 (out), AF21 PCSA_HDOUTP0 (out)
part J pins: AA10 PCSB_VCCOB3 (power), AA11 PCSB_VCCIB2 (power), AA12 PCSB_VCCOB1 (power), AA15 PCSA_VCCIB2 (power), AA16 PCSA_VCCIB1 (power), AA17 PCSA_VCCOB0 (power), AB9 PCSB_VCCIB3 (power), AB10 PCSB_VCCOB2 (power), AB11 PCSB_VCCIB1 (power), AB12 PCSB_VCCOB0 (power), AB13 PCSB_VCCIB0 (power), AB14 PCSA_VCCIB3 (power), AB15 PCSA_VCCOB3 (power), AB16 PCSA_VCCOB2 (power), AB17 PCSA_VCCOB1 (power), AB18 PCSA_VCCIB0 (power), H7 VCCJ (power), H12 VCCIO0 (power), H13 VCCIO0 (power), H14 VCCIO1 (power), H15 VCCIO1 (power), H19 VCCIO8 (power), H20 VCCIO8 (power), J9 VCCAUX (power), J10 VCCIO0 (power), J11 VCCAUX (power), J13 VCCIO0 (power), J14 VCCIO1 (power), J16 VCCAUX (power), J17 VCCIO1 (power), J18 VCCAUX (power), K9 VCCIO7 (power), K11 VCC (power), K12 VCC (power), K13 VCC (power), K14 VCC (power), K15 VCC (power), K16 VCC (power), K18 VCCIO2 (power), L9 VCCAUX (power), L10 VCC (power), L11 VCC (power), L12 VCC (power), L15 VCC (power), L16 VCC (power), L17 VCC (power), L18 VCCAUX (power), M8 VCCIO7 (power), M10 VCCPLL_L (power), M11 VCC (power), M16 VCC (power), M17 VCCPLL_R (power), M19 VCCIO2 (power), N7 VTT7 (power), N8 VCCIO7 (power), N9 VCCIO7 (power), N10 VCC (power), N17 VCC (power), N18 VCCIO2 (power), N19 VCCIO2 (power), N20 VTT2 (power), P7 VTT6 (power), P8 VCCIO6 (power), P9 VCCIO6 (power), P10 VCC (power), P17 VCC (power), P18 VCCIO3 (power), P19 VCCIO3 (power), P20 VTT3 (power), R8 VCCIO6 (power), R10 VCCPLL_L (power), R11 VCC (power), R16 VCC (power), R17 VCCPLL_R (power), R19 VCCIO3 (power), T9 VCCAUX (power), T10 VCC (power), T11 VCC (power), T12 VCC (power), T15 VCC (power), T16 VCC (power), T17 VCC (power), T18 VCCAUX (power), U9 VCCIO6 (power), U11 VCC (power), U12 VCC (power), U13 VCC (power), U14 VCC (power), U15 VCC (power), U16 VCC (power), U18 VCCIO3 (power), V9 VCCAUX (power), V11 VCCAUX (power), V13 VCCA (power), V14 VCCA (power), V16 VCCAUX (power), V18 VCCAUX (power), W12 VCCA (power), W13 VCCA (power), W14 VCCA (power), W15 VCCA (power), Y13 VCCA (power), Y14 VCCA (power)
part K pins: A2 GND (power), A25 GND (power), AA6 GND (power), AA8 GND (power), AA9 GND (power), AA13 GND (power), AA14 GND (power), AA18 GND (power), AA19 GND (power), AA21 GND (power), AB2 GND (power), AB8 GND (power), AB19 GND (power), AB25 GND (power), AC5 GND (power), AC6 GND (power), AC7 GND (power), AC8 GND (power), AC11 GND (power), AC12 GND (power), AC13 GND (power), AC14 GND (power), AC15 GND (power), AC16 GND (power), AC19 GND (power), AC20 GND (power), AC21 GND (power), AC22 GND (power), AD5 GND (power), AD22 GND (power), AE1 GND (power), AE5 GND (power), AE6 GND (power), AE7 GND (power), AE8 GND (power), AE9 GND (power), AE10 GND (power), AE11 GND (power), AE12 GND (power), AE13 GND (power), AE14 GND (power), AE15 GND (power), AE16 GND (power), AE17 GND (power), AE18 GND (power), AE19 GND (power), AE20 GND (power), AE21 GND (power), AE22 GND (power), AE26 GND (power), AF2 GND (power), AF5 GND (power), AF22 GND (power), AF25 GND (power), B1 GND (power), B5 GND (power), B9 GND (power), B14 GND (power), B18 GND (power), B22 GND (power), B26 GND (power), D7 GND (power), D11 GND (power), D16 GND (power), D20 GND (power), E2 GND (power), E25 GND (power), F6 GND (power), F21 GND (power), G4 GND (power), G12 GND (power), G15 GND (power), G23 GND (power), H9 GND (power), H18 GND (power), J2 GND (power), J8 GND (power), J12 GND (power), J15 GND (power), J19 GND (power), J25 GND (power), K10 GND (power), K17 GND (power), L4 GND (power), L13 GND (power), L14 GND (power), L23 GND (power), M7 GND (power), M9 GND (power), M12 GND (power), M13 GND (power), M14 GND (power), M15 GND (power), M18 GND (power), M20 GND (power), N2 GND (power), N11 GND (power), N12 GND (power), N13 GND (power), N14 GND (power), N15 GND (power), N16 GND (power), P11 GND (power), P12 GND (power), P13 GND (power), P14 GND (power), P15 GND (power), P16 GND (power), P25 GND (power), R7 GND (power), R9 GND (power), R12 GND (power), R13 GND (power), R14 GND (power), R15 GND (power), R20 GND (power), T4 GND (power), T13 GND (power), T14 GND (power), T19 GND (power), T23 GND (power), U17 GND (power), V2 GND (power), V12 GND (power), V15 GND (power), V19 GND (power), V25 GND (power), W11 GND (power), W16 GND (power), Y4 GND (power), Y9 GND (power), Y10 GND (power), Y11 GND (power), Y12 GND (power), Y15 GND (power), Y16 GND (power), Y17 GND (power), Y18 GND (power), Y23 GND (power)
part L pins: R18 XRES, U10 RESERVE, V8 RESERVE
part A text: BANK 0
part B text: BANK 1
part C text: BANK 2
part D text: BANK 3
part E text: BANK 6
part F text: BANK 7
part G text: BANK 8

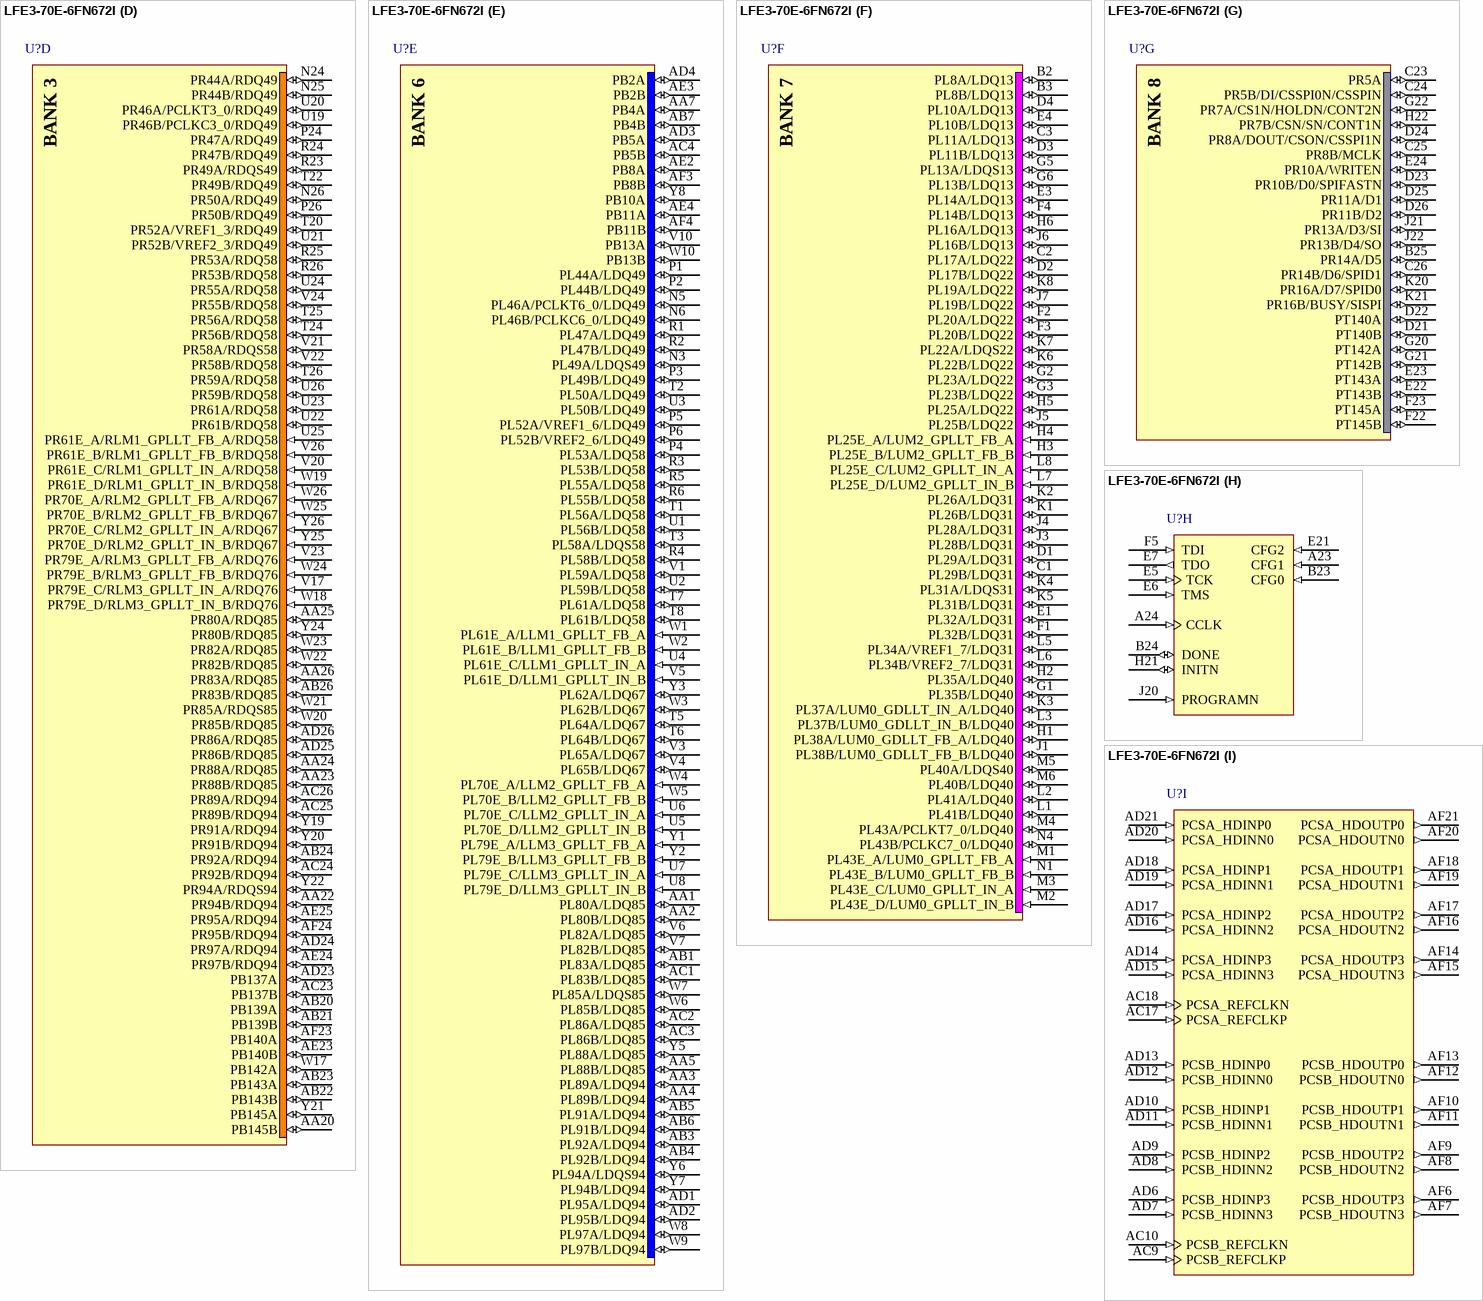
[diagram p48: symbol LFE3-70E-6FN672I]

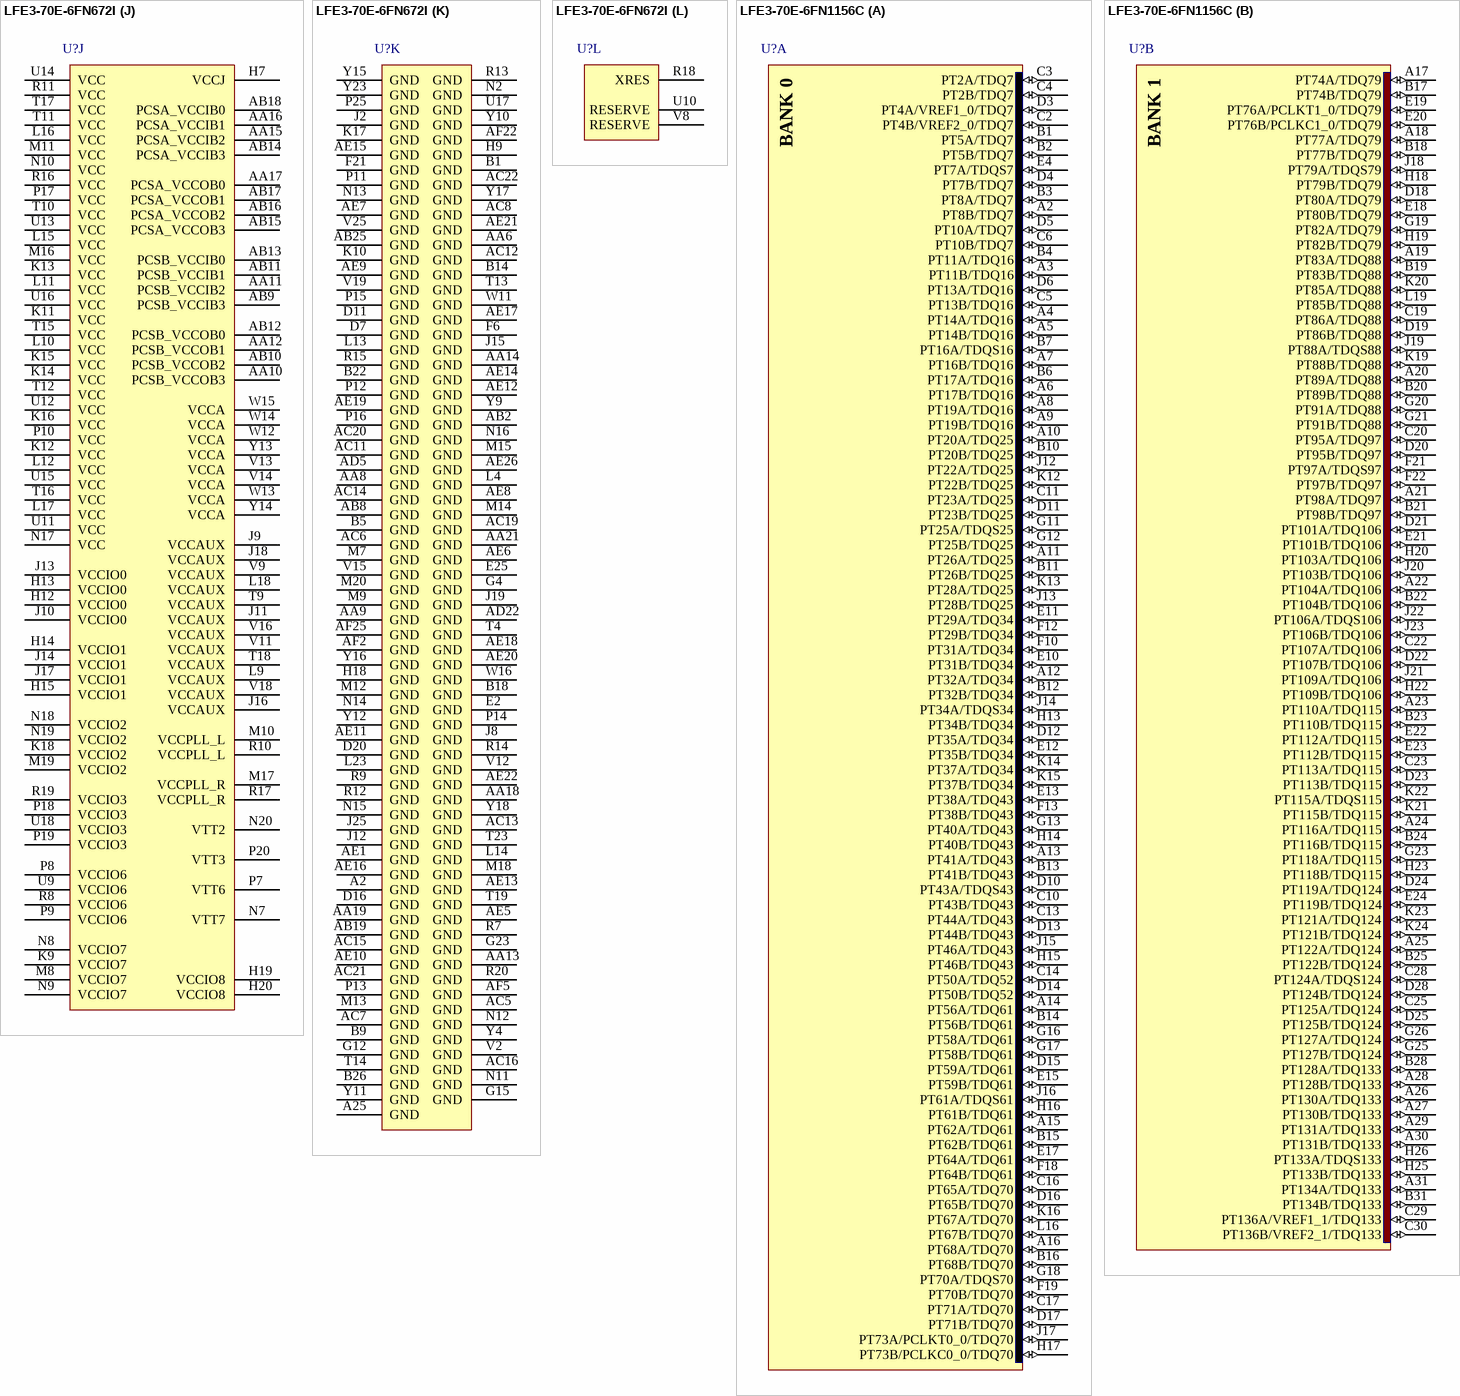
[diagram p49: symbols LFE3-70E-6FN672I to LFE3-70E-6FN1156C]

## LFE3-70E-6FN672I
designator U?
ECP3 1.2V FPGA, 380 I/Os, 67K LUTs, 672-Pin BGA, Speed Grade 6, Industrial Grade, Pb-Free; DatasheetVersion: Ver 01.6, Mar-2010; PackageVersion: ver02.8, Jul-2011; PackageReference: fpBGA672; PackageDescription: 672-Ball Fine Pitch Ball Grid Array (fpBGA672); ComponentLink1Description: Manufacturer URL; ComponentLink1URL: http://www.latticesemi.com/
footprint fpBGA672 (BGA, 672-Leads, Body 27x27mm, Pitch 1mm)
part A pins: A3 PT11A/TDQ16 (io), A4 PT11B/TDQ16 (io), A5 PT17A/TDQ16 (io), A6 PT17B/TDQ16 (io), A7 PT14B/TDQ16 (io), A8 PT41A/TDQ43 (io), A9 PT56A/TDQ61 (io), A10 PT59A/TDQ61 (io), A11 PT59B/TDQ61 (io), A12 PT65A/TDQ70 (io), A13 PT68A/TDQ70 (io), A14 PT68B/TDQ70 (io), A15 PT71A/TDQ70 (io), A16 PT71B/TDQ70 (io), B4 PT7B/TDQ7 (io), B6 PT2A/TDQ7 (io), B7 PT14A/TDQ16 (io), B8 PT41B/TDQ43 (io), B10 PT56B/TDQ61 (io), B11 PT62A/TDQ61 (io), B12 PT62B/TDQ61 (io), B13 PT65B/TDQ70 (io), C4 PT4B/VREF2_0/TDQ7 (io), C5 PT7A/TDQS7 (io), C6 PT5B/TDQ7 (io), C7 PT2B/TDQ7 (io), C8 PT8B/TDQ7 (io), C9 PT44A/TDQ43 (io), C10 PT44B/TDQ43 (io), C11 PT61B/TDQ61 (io), C12 PT67A/TDQ70 (io), C13 PT67B/TDQ70 (io), D5 PT4A/VREF1_0/TDQ7 (io), D6 PT5A/TDQ7 (io), D8 PT8A/TDQ7 (io), D9 PT38A/TDQ43 (io), D10 PT38B/TDQ43 (io), D12 PT61A/TDQS61 (io), D13 PT73B/PCLKC0_0/TDQ70 (io), E8 PT16A/TDQS16 (io), E9 PT16B/TDQ16 (io), E10 PT40B/TDQ43 (io), E11 PT64A/TDQ61 (io), E12 PT64B/TDQ61 (io), E13 PT73A/PCLKT0_0/TDQ70 (io), F7 PT13A/TDQ16 (io), F8 PT13B/TDQ16 (io), F9 PT19B/TDQ16 (io), F10 PT40A/TDQ43 (io), F11 PT58A/TDQ61 (io), F12 PT70A/TDQS70 (io), G7 PT10A/TDQ7 (io), G8 PT19A/TDQ16 (io), G9 PT43B/TDQ43 (io), G10 PT43A/TDQS43 (io), G11 PT58B/TDQ61 (io), G13 PT70B/TDQ70 (io), H8 PT10B/TDQ7 (io), H10 PT46A/TDQ43 (io), H11 PT46B/TDQ43 (io)
part B pins: A17 PT80A/TDQ79 (io), A18 PT80B/TDQ79 (io), A19 PT83A/TDQ88 (io), A20 PT83B/TDQ88 (io), A21 PT86A/TDQ88 (io), A22 PT131B/TDQ133 (io), B15 PT74B/TDQ79 (io), B16 PT77A/TDQ79 (io), B17 PT82A/TDQ79 (io), B19 PT89B/TDQ88 (io), B20 PT86B/TDQ88 (io), B21 PT131A/TDQ133 (io), C14 PT76A/PCLKT1_0/TDQ79 (io), C15 PT74A/TDQ79 (io), C16 PT77B/TDQ79 (io), C17 PT82B/TDQ79 (io), C18 PT107A/TDQ106 (io), C19 PT104A/TDQ106 (io), C20 PT89A/TDQ88 (io), C21 PT134B/TDQ133 (io), C22 PT134A/TDQ133 (io), D14 PT76B/PCLKC1_0/TDQ79 (io), D15 PT91A/TDQ88 (io), D17 PT130B/TDQ133 (io), D18 PT107B/TDQ106 (io), D19 PT104B/TDQ106 (io), E14 PT85A/TDQ88 (io), E15 PT85B/TDQ88 (io), E16 PT91B/TDQ88 (io), E17 PT101A/TDQ106 (io), E18 PT130A/TDQ133 (io), E19 PT128A/TDQ133 (io), E20 PT128B/TDQ133 (io), F13 PT79A/TDQS79 (io), F14 PT79B/TDQ79 (io), F15 PT88B/TDQ88 (io), F16 PT103B/TDQ106 (io), F17 PT109A/TDQ106 (io), F18 PT101B/TDQ106 (io), F19 PT133A/TDQS133 (io), F20 PT133B/TDQ133 (io), G14 PT88A/TDQS88 (io), G16 PT103A/TDQ106 (io), G17 PT109B/TDQ106 (io), G18 PT136A/VREF1_1/TDQ133 (io), G19 PT136B/VREF2_1/TDQ133 (io), H16 PT106A/TDQS106 (io), H17 PT106B/TDQ106 (io)
part C pins: E26 PR25E_B/RUM2_GPLLT_FB_B/RDQ22 (in), F24 PR22A/RDQS22 (io), F25 PR25E_A/RUM2_GPLLT_FB_A/RDQ22 (in), F26 PR20B/RDQ22 (io), G24 PR22B/RDQ22 (io), G25 PR26B/RDQ31 (io), G26 PR20A/RDQ22 (io), H23 PR19B/RDQ22 (io), H24 PR26A/RDQ31 (io), H25 PR23B/RDQ22 (io), H26 PR23A/RDQ22 (io), J23 PR19A/RDQ22 (io), J24 PR29B/RDQ31 (io), J26 PR35A/RDQ40 (io), K19 PR38A/RUM0_GDLLT_FB_A/RDQ40 (io), K22 PR25B/RDQ22 (io), K23 PR25A/RDQ22 (io), K24 PR29A/RDQ31 (io), K25 PR32B/RDQ31 (io), K26 PR35B/RDQ40 (io), L19 PR38B/RUM0_GDLLT_FB_B/RDQ40 (io), L20 PR28A/RDQ31 (io), L21 PR25E_C/RUM2_GPLLT_IN_A/RDQ22 (in), L22 PR25E_D/RUM2_GPLLT_IN_B/RDQ22 (in), L24 PR32A/RDQ31 (io), L25 PR41A/RDQ40 (io), L26 PR41B/RDQ40 (io), M21 PR28B/RDQ31 (io), M22 PR34A/VREF1_2/RDQ31 (io), M23 PR31A/RDQS31 (io), M24 PR31B/RDQ31 (io), M25 PR43E_A/RUM0_GPLLT_FB_A/RDQ40 (in), M26 PR43E_B/RUM0_GPLLT_FB_B/RDQ40 (in), N21 PR34B/VREF2_2/RDQ31 (io), N22 PR37B/RUM0_GDLLT_IN_B/RDQ40 (io), N23 PR37A/RUM0_GDLLT_IN_A/RDQ40 (io), P21 PR43A/PCLKT2_0/RDQ40 (io), P22 PR43B/PCLKC2_0/RDQ40 (io), P23 PR40A/RDQS40 (io), R21 PR43E_D/RUM0_GPLLT_IN_B/RDQ40 (in), R22 PR40B/RDQ40 (io), T21 PR43E_C/RUM0_GPLLT_IN_A/RDQ40 (in)
part D pins: AA20 PB145B (io), AA22 PR94B/RDQ94 (io), AA23 PR88B/RDQ85 (io), AA24 PR88A/RDQ85 (io), AA25 PR80A/RDQ85 (io), AA26 PR83A/RDQ85 (io), AB20 PB139A (io), AB21 PB139B (io), AB22 PB143B (io), AB23 PB143A (io), AB24 PR92A/RDQ94 (io), AB26 PR83B/RDQ85 (io), AC23 PB137B (io), AC24 PR92B/RDQ94 (io), AC25 PR89B/RDQ94 (io), AC26 PR89A/RDQ94 (io), AD23 PB137A (io), AD24 PR97A/RDQ94 (io), AD25 PR86B/RDQ85 (io), AD26 PR86A/RDQ85 (io), AE23 PB140B (io), AE24 PR97B/RDQ94 (io), AE25 PR95A/RDQ94 (io), AF23 PB140A (io), AF24 PR95B/RDQ94 (io), N24 PR44A/RDQ49 (io), N25 PR44B/RDQ49 (io), N26 PR50A/RDQ49 (io), P24 PR47A/RDQ49 (io), P26 PR50B/RDQ49 (io), R23 PR49A/RDQS49 (io), R24 PR47B/RDQ49 (io), R25 PR53A/RDQ58 (io), R26 PR53B/RDQ58 (io), T20 PR52A/VREF1_3/RDQ49 (io), T22 PR49B/RDQ49 (io), T24 PR56B/RDQ58 (io), T25 PR56A/RDQ58 (io), T26 PR59A/RDQ58 (io), U19 PR46B/PCLKC3_0/RDQ49 (io), U20 PR46A/PCLKT3_0/RDQ49 (io), U21 PR52B/VREF2_3/RDQ49 (io), U22 PR61B/RDQ58 (io), U23 PR61A/RDQ58 (io), U24 PR55A/RDQ58 (io), U25 PR61E_A/RLM1_GPLLT_FB_A/RDQ58 (in), U26 PR59B/RDQ58 (io), V17 PR79E_C/RLM3_GPLLT_IN_A/RDQ76 (in), V20 PR61E_C/RLM1_GPLLT_IN_A/RDQ58 (in), V21 PR58A/RDQS58 (io), V22 PR58B/RDQ58 (io), V23 PR79E_A/RLM3_GPLLT_FB_A/RDQ76 (in), V24 PR55B/RDQ58 (io), V26 PR61E_B/RLM1_GPLLT_FB_B/RDQ58 (in), W17 PB142A (io), W18 PR79E_D/RLM3_GPLLT_IN_B/RDQ76 (in), W19 PR61E_D/RLM1_GPLLT_IN_B/RDQ58 (in), W20 PR85B/RDQ85 (io), W21 PR85A/RDQS85 (io), W22 PR82B/RDQ85 (io), W23 PR82A/RDQ85 (io), W24 PR79E_B/RLM3_GPLLT_FB_B/RDQ76 (in), W25 PR70E_B/RLM2_GPLLT_FB_B/RDQ67 (in), W26 PR70E_A/RLM2_GPLLT_FB_A/RDQ67 (in), Y19 PR91A/RDQ94 (io), Y20 PR91B/RDQ94 (io), Y21 PB145A (io), Y22 PR94A/RDQS94 (io), Y24 PR80B/RDQ85 (io), Y25 PR70E_D/RLM2_GPLLT_IN_B/RDQ67 (in), Y26 PR70E_C/RLM2_GPLLT_IN_A/RDQ67 (in)
part E pins: AA1 PL80A/LDQ85 (io), AA2 PL80B/LDQ85 (io), AA3 PL89A/LDQ94 (io), AA4 PL89B/LDQ94 (io), AA5 PL88B/LDQ85 (io), AA7 PB4A (io), AB1 PL83A/LDQ85 (io), AB3 PL92A/LDQ94 (io), AB4 PL92B/LDQ94 (io), AB5 PL91A/LDQ94 (io), AB6 PL91B/LDQ94 (io), AB7 PB4B (io), AC1 PL83B/LDQ85 (io), AC2 PL86A/LDQ85 (io), AC3 PL86B/LDQ85 (io), AC4 PB5B (io), AD1 PL95A/LDQ94 (io), AD2 PL95B/LDQ94 (io), AD3 PB5A (io), AD4 PB2A (io), AE2 PB8A (io), AE3 PB2B (io), AE4 PB11A (io), AF3 PB8B (io), AF4 PB11B (io), N3 PL49A/LDQS49 (io), N5 PL46A/PCLKT6_0/LDQ49 (io), N6 PL46B/PCLKC6_0/LDQ49 (io), P1 PL44A/LDQ49 (io), P2 PL44B/LDQ49 (io), P3 PL49B/LDQ49 (io), P4 PL53A/LDQ58 (io), P5 PL52A/VREF1_6/LDQ49 (io), P6 PL52B/VREF2_6/LDQ49 (io), R1 PL47A/LDQ49 (io), R2 PL47B/LDQ49 (io), R3 PL53B/LDQ58 (io), R4 PL58B/LDQ58 (io), R5 PL55A/LDQ58 (io), R6 PL55B/LDQ58 (io), T1 PL56A/LDQ58 (io), T2 PL50A/LDQ49 (io), T3 PL58A/LDQS58 (io), T5 PL64A/LDQ67 (io), T6 PL64B/LDQ67 (io), T7 PL61A/LDQ58 (io), T8 PL61B/LDQ58 (io), U1 PL56B/LDQ58 (io), U2 PL59B/LDQ58 (io), U3 PL50B/LDQ49 (io), U4 PL61E_C/LLM1_GPLLT_IN_A (in), U5 PL70E_D/LLM2_GPLLT_IN_B (in), U6 PL70E_C/LLM2_GPLLT_IN_A (in), U7 PL79E_C/LLM3_GPLLT_IN_A (in), U8 PL79E_D/LLM3_GPLLT_IN_B (in), V1 PL59A/LDQ58 (io), V3 PL65A/LDQ67 (io), V4 PL65B/LDQ67 (io), V5 PL61E_D/LLM1_GPLLT_IN_B (in), V6 PL82A/LDQ85 (io), V7 PL82B/LDQ85 (io), V10 PB13A (io), W1 PL61E_A/LLM1_GPLLT_FB_A (in), W2 PL61E_B/LLM1_GPLLT_FB_B (in), W3 PL62B/LDQ67 (io), W4 PL70E_A/LLM2_GPLLT_FB_A (in), W5 PL70E_B/LLM2_GPLLT_FB_B (in), W6 PL85B/LDQ85 (io), W7 PL85A/LDQS85 (io), W8 PL97A/LDQ94 (io), W9 PL97B/LDQ94 (io), W10 PB13B (io), Y1 PL79E_A/LLM3_GPLLT_FB_A (in), Y2 PL79E_B/LLM3_GPLLT_FB_B (in), Y3 PL62A/LDQ67 (io), Y5 PL88A/LDQ85 (io), Y6 PL94A/LDQS94 (io), Y7 PL94B/LDQ94 (io), Y8 PB10A (io)
part F pins: B2 PL8A/LDQ13 (io), B3 PL8B/LDQ13 (io), C1 PL29B/LDQ31 (io), C2 PL17A/LDQ22 (io), C3 PL11A/LDQ13 (io), D1 PL29A/LDQ31 (io), D2 PL17B/LDQ22 (io), D3 PL11B/LDQ13 (io), D4 PL10A/LDQ13 (io), E1 PL32A/LDQ31 (io), E3 PL14A/LDQ13 (io), E4 PL10B/LDQ13 (io), F1 PL32B/LDQ31 (io), F2 PL20A/LDQ22 (io), F3 PL20B/LDQ22 (io), F4 PL14B/LDQ13 (io), G1 PL35B/LDQ40 (io), G2 PL23A/LDQ22 (io), G3 PL23B/LDQ22 (io), G5 PL13A/LDQS13 (io), G6 PL13B/LDQ13 (io), H1 PL38A/LUM0_GDLLT_FB_A/LDQ40 (io), H2 PL35A/LDQ40 (io), H3 PL25E_B/LUM2_GPLLT_FB_B (in), H4 PL25E_A/LUM2_GPLLT_FB_A (in), H5 PL25A/LDQ22 (io), H6 PL16A/LDQ13 (io), J1 PL38B/LUM0_GDLLT_FB_B/LDQ40 (io), J3 PL28B/LDQ31 (io), J4 PL28A/LDQ31 (io), J5 PL25B/LDQ22 (io), J6 PL16B/LDQ13 (io), J7 PL19B/LDQ22 (io), K1 PL26B/LDQ31 (io), K2 PL26A/LDQ31 (io), K3 PL37A/LUM0_GDLLT_IN_A/LDQ40 (io), K4 PL31A/LDQS31 (io), K5 PL31B/LDQ31 (io), K6 PL22B/LDQ22 (io), K7 PL22A/LDQS22 (io), K8 PL19A/LDQ22 (io), L1 PL41B/LDQ40 (io), L2 PL41A/LDQ40 (io), L3 PL37B/LUM0_GDLLT_IN_B/LDQ40 (io), L5 PL34A/VREF1_7/LDQ31 (io), L6 PL34B/VREF2_7/LDQ31 (io), L7 PL25E_D/LUM2_GPLLT_IN_B (in), L8 PL25E_C/LUM2_GPLLT_IN_A (in), M1 PL43E_A/LUM0_GPLLT_FB_A (in), M2 PL43E_D/LUM0_GPLLT_IN_B (in), M3 PL43E_C/LUM0_GPLLT_IN_A (in), M4 PL43A/PCLKT7_0/LDQ40 (io), M5 PL40A/LDQS40 (io), M6 PL40B/LDQ40 (io), N1 PL43E_B/LUM0_GPLLT_FB_B (in), N4 PL43B/PCLKC7_0/LDQ40 (io)
part G pins: B25 PR14A/D5 (io), C23 PR5A (io), C24 PR5B/DI/CSSPI0N/CSSPIN (io), C25 PR8B/MCLK (io), C26 PR14B/D6/SPID1 (io), D21 PT140B (io), D22 PT140A (io), D23 PR10B/D0/SPIFASTN (io), D24 PR8A/DOUT/CSON/CSSPI1N (io), D25 PR11A/D1 (io), D26 PR11B/D2 (io), E22 PT143B (io), E23 PT143A (io), E24 PR10A/WRITEN (io), F22 PT145B (io), F23 PT145A (io), G20 PT142A (io), G21 PT142B (io), G22 PR7A/CS1N/HOLDN/CONT2N (io), H22 PR7B/CSN/SN/CONT1N (io), J21 PR13A/D3/SI (io), J22 PR13B/D4/SO (io), K20 PR16A/D7/SPID0 (io), K21 PR16B/BUSY/SISPI (io)
part H pins: A23 CFG1 (in), A24 CCLK (in), B23 CFG0 (in), B24 DONE (io), E5 TCK (in), E6 TMS (in), E7 TDO (out), E21 CFG2 (in), F5 TDI (in), H21 INITN (io), J20 PROGRAMN (in)
part I pins: AC9 PCSB_REFCLKP (in), AC10 PCSB_REFCLKN (in), AC17 PCSA_REFCLKP (in), AC18 PCSA_REFCLKN (in), AD6 PCSB_HDINP3 (in), AD7 PCSB_HDINN3 (in), AD8 PCSB_HDINN2 (in), AD9 PCSB_HDINP2 (in), AD10 PCSB_HDINP1 (in), AD11 PCSB_HDINN1 (in), AD12 PCSB_HDINN0 (in), AD13 PCSB_HDINP0 (in), AD14 PCSA_HDINP3 (in), AD15 PCSA_HDINN3 (in), AD16 PCSA_HDINN2 (in), AD17 PCSA_HDINP2 (in), AD18 PCSA_HDINP1 (in), AD19 PCSA_HDINN1 (in), AD20 PCSA_HDINN0 (in), AD21 PCSA_HDINP0 (in), AF6 PCSB_HDOUTP3 (out), AF7 PCSB_HDOUTN3 (out), AF8 PCSB_HDOUTN2 (out), AF9 PCSB_HDOUTP2 (out), AF10 PCSB_HDOUTP1 (out), AF11 PCSB_HDOUTN1 (out), AF12 PCSB_HDOUTN0 (out), AF13 PCSB_HDOUTP0 (out), AF14 PCSA_HDOUTP3 (out), AF15 PCSA_HDOUTN3 (out), AF16 PCSA_HDOUTN2 (out), AF17 PCSA_HDOUTP2 (out), AF18 PCSA_HDOUTP1 (out), AF19 PCSA_HDOUTN1 (out), AF20 PCSA_HDOUTN0 (out), AF21 PCSA_HDOUTP0 (out)
part J pins: AA10 PCSB_VCCOB3 (power), AA11 PCSB_VCCIB2 (power), AA12 PCSB_VCCOB1 (power), AA15 PCSA_VCCIB2 (power), AA16 PCSA_VCCIB1 (power), AA17 PCSA_VCCOB0 (power), AB9 PCSB_VCCIB3 (power), AB10 PCSB_VCCOB2 (power), AB11 PCSB_VCCIB1 (power), AB12 PCSB_VCCOB0 (power), AB13 PCSB_VCCIB0 (power), AB14 PCSA_VCCIB3 (power), AB15 PCSA_VCCOB3 (power), AB16 PCSA_VCCOB2 (power), AB17 PCSA_VCCOB1 (power), AB18 PCSA_VCCIB0 (power), H7 VCCJ (power), H12 VCCIO0 (power), H13 VCCIO0 (power), H14 VCCIO1 (power), H15 VCCIO1 (power), H19 VCCIO8 (power), H20 VCCIO8 (power), J9 VCCAUX (power), J10 VCCIO0 (power), J11 VCCAUX (power), J13 VCCIO0 (power), J14 VCCIO1 (power), J16 VCCAUX (power), J17 VCCIO1 (power), J18 VCCAUX (power), K9 VCCIO7 (power), K11 VCC (power), K12 VCC (power), K13 VCC (power), K14 VCC (power), K15 VCC (power), K16 VCC (power), K18 VCCIO2 (power), L9 VCCAUX (power), L10 VCC (power), L11 VCC (power), L12 VCC (power), L15 VCC (power), L16 VCC (power), L17 VCC (power), L18 VCCAUX (power), M8 VCCIO7 (power), M10 VCCPLL_L (power), M11 VCC (power), M16 VCC (power), M17 VCCPLL_R (power), M19 VCCIO2 (power), N7 VTT7 (power), N8 VCCIO7 (power), N9 VCCIO7 (power), N10 VCC (power), N17 VCC (power), N18 VCCIO2 (power), N19 VCCIO2 (power), N20 VTT2 (power), P7 VTT6 (power), P8 VCCIO6 (power), P9 VCCIO6 (power), P10 VCC (power), P17 VCC (power), P18 VCCIO3 (power), P19 VCCIO3 (power), P20 VTT3 (power), R8 VCCIO6 (power), R10 VCCPLL_L (power), R11 VCC (power), R16 VCC (power), R17 VCCPLL_R (power), R19 VCCIO3 (power), T9 VCCAUX (power), T10 VCC (power), T11 VCC (power), T12 VCC (power), T15 VCC (power), T16 VCC (power), T17 VCC (power), T18 VCCAUX (power), U9 VCCIO6 (power), U11 VCC (power), U12 VCC (power), U13 VCC (power), U14 VCC (power), U15 VCC (power), U16 VCC (power), U18 VCCIO3 (power), V9 VCCAUX (power), V11 VCCAUX (power), V13 VCCA (power), V14 VCCA (power), V16 VCCAUX (power), V18 VCCAUX (power), W12 VCCA (power), W13 VCCA (power), W14 VCCA (power), W15 VCCA (power), Y13 VCCA (power), Y14 VCCA (power)
part K pins: A2 GND (power), A25 GND (power), AA6 GND (power), AA8 GND (power), AA9 GND (power), AA13 GND (power), AA14 GND (power), AA18 GND (power), AA19 GND (power), AA21 GND (power), AB2 GND (power), AB8 GND (power), AB19 GND (power), AB25 GND (power), AC5 GND (power), AC6 GND (power), AC7 GND (power), AC8 GND (power), AC11 GND (power), AC12 GND (power), AC13 GND (power), AC14 GND (power), AC15 GND (power), AC16 GND (power), AC19 GND (power), AC20 GND (power), AC21 GND (power), AC22 GND (power), AD5 GND (power), AD22 GND (power), AE1 GND (power), AE5 GND (power), AE6 GND (power), AE7 GND (power), AE8 GND (power), AE9 GND (power), AE10 GND (power), AE11 GND (power), AE12 GND (power), AE13 GND (power), AE14 GND (power), AE15 GND (power), AE16 GND (power), AE17 GND (power), AE18 GND (power), AE19 GND (power), AE20 GND (power), AE21 GND (power), AE22 GND (power), AE26 GND (power), AF2 GND (power), AF5 GND (power), AF22 GND (power), AF25 GND (power), B1 GND (power), B5 GND (power), B9 GND (power), B14 GND (power), B18 GND (power), B22 GND (power), B26 GND (power), D7 GND (power), D11 GND (power), D16 GND (power), D20 GND (power), E2 GND (power), E25 GND (power), F6 GND (power), F21 GND (power), G4 GND (power), G12 GND (power), G15 GND (power), G23 GND (power), H9 GND (power), H18 GND (power), J2 GND (power), J8 GND (power), J12 GND (power), J15 GND (power), J19 GND (power), J25 GND (power), K10 GND (power), K17 GND (power), L4 GND (power), L13 GND (power), L14 GND (power), L23 GND (power), M7 GND (power), M9 GND (power), M12 GND (power), M13 GND (power), M14 GND (power), M15 GND (power), M18 GND (power), M20 GND (power), N2 GND (power), N11 GND (power), N12 GND (power), N13 GND (power), N14 GND (power), N15 GND (power), N16 GND (power), P11 GND (power), P12 GND (power), P13 GND (power), P14 GND (power), P15 GND (power), P16 GND (power), P25 GND (power), R7 GND (power), R9 GND (power), R12 GND (power), R13 GND (power), R14 GND (power), R15 GND (power), R20 GND (power), T4 GND (power), T13 GND (power), T14 GND (power), T19 GND (power), T23 GND (power), U17 GND (power), V2 GND (power), V12 GND (power), V15 GND (power), V19 GND (power), V25 GND (power), W11 GND (power), W16 GND (power), Y4 GND (power), Y9 GND (power), Y10 GND (power), Y11 GND (power), Y12 GND (power), Y15 GND (power), Y16 GND (power), Y17 GND (power), Y18 GND (power), Y23 GND (power)
part L pins: R18 XRES, U10 RESERVE, V8 RESERVE
part A text: BANK 0
part B text: BANK 1
part C text: BANK 2
part D text: BANK 3
part E text: BANK 6
part F text: BANK 7
part G text: BANK 8

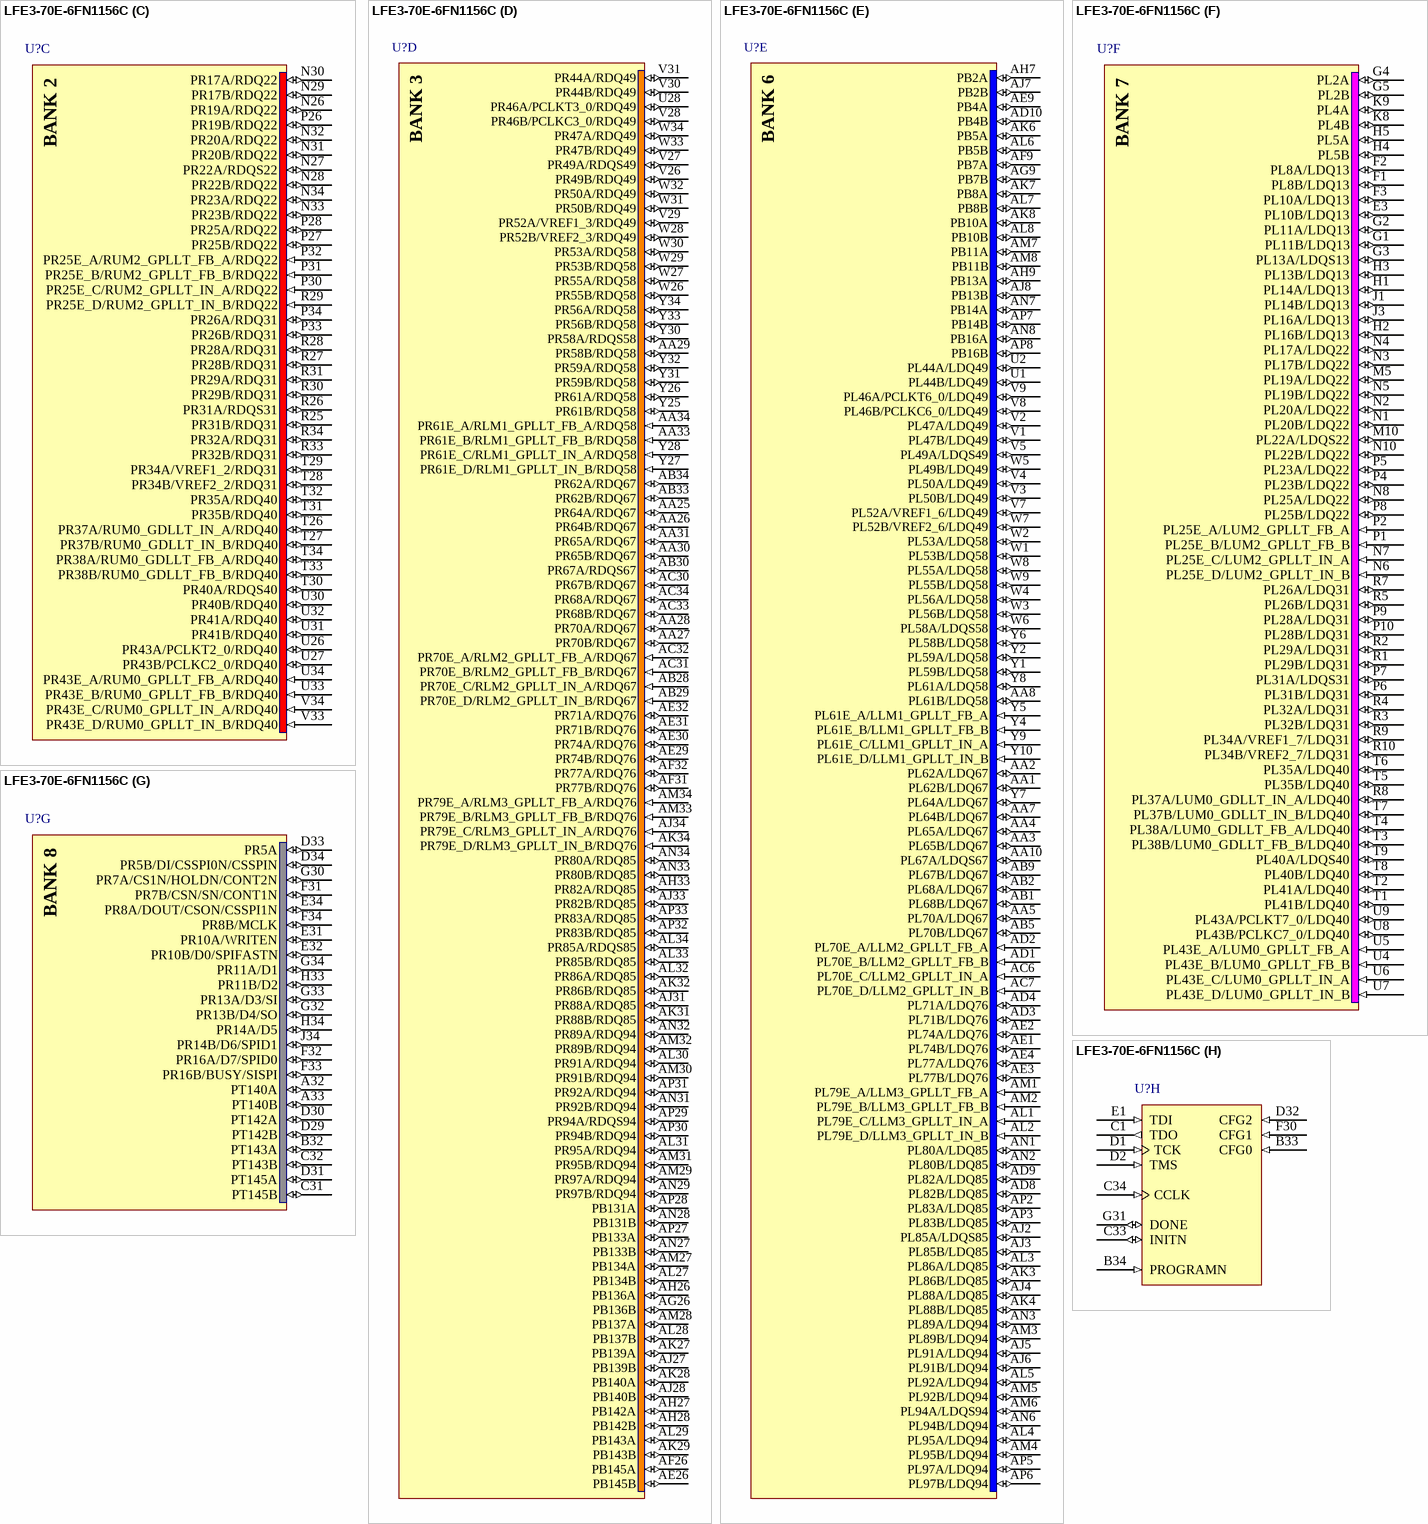
[diagram p50: symbol LFE3-70E-6FN1156C]

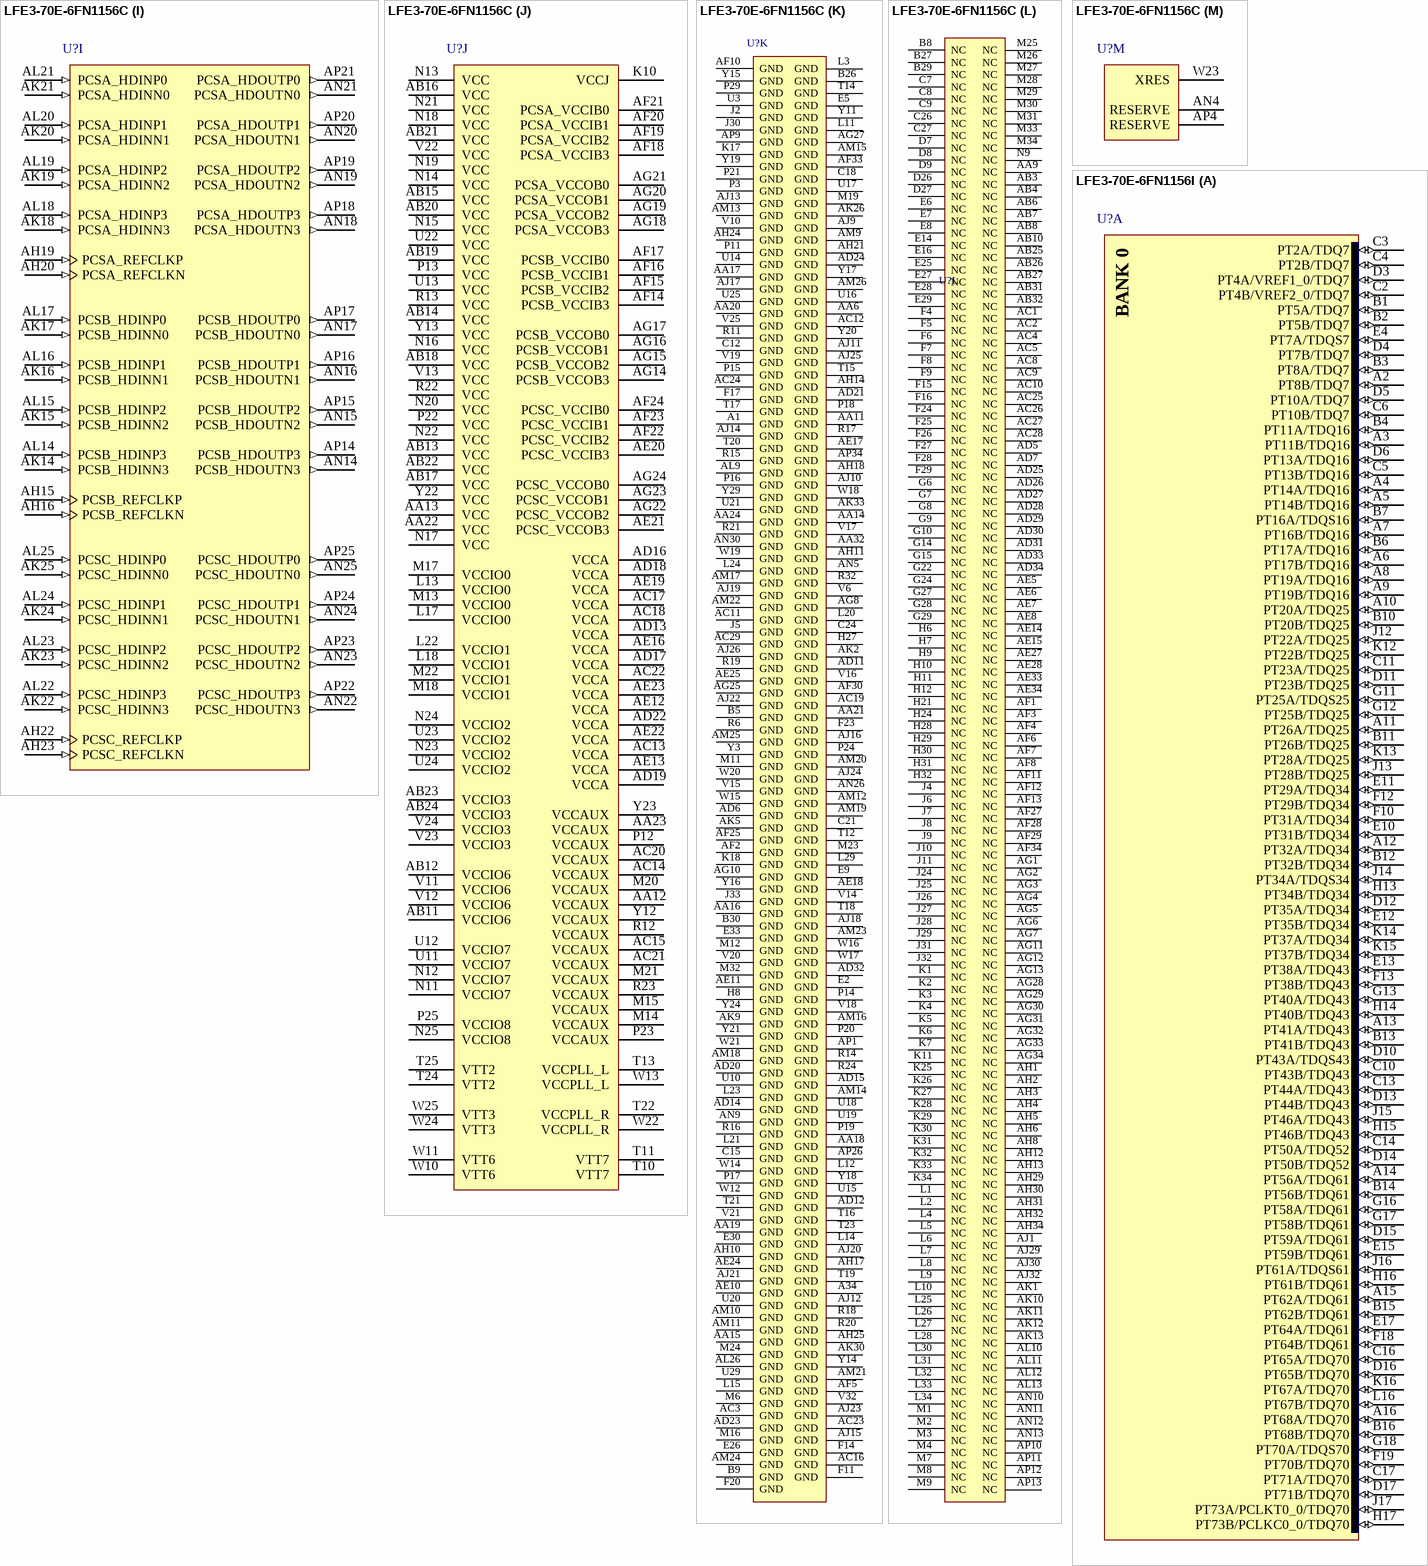
[diagram p51: symbols LFE3-70E-6FN1156C to LFE3-70E-6FN1156I]